# Altium integrated library Lattice CPLD ispMACH.IntLib: 663 symbols (part 14 of 48)
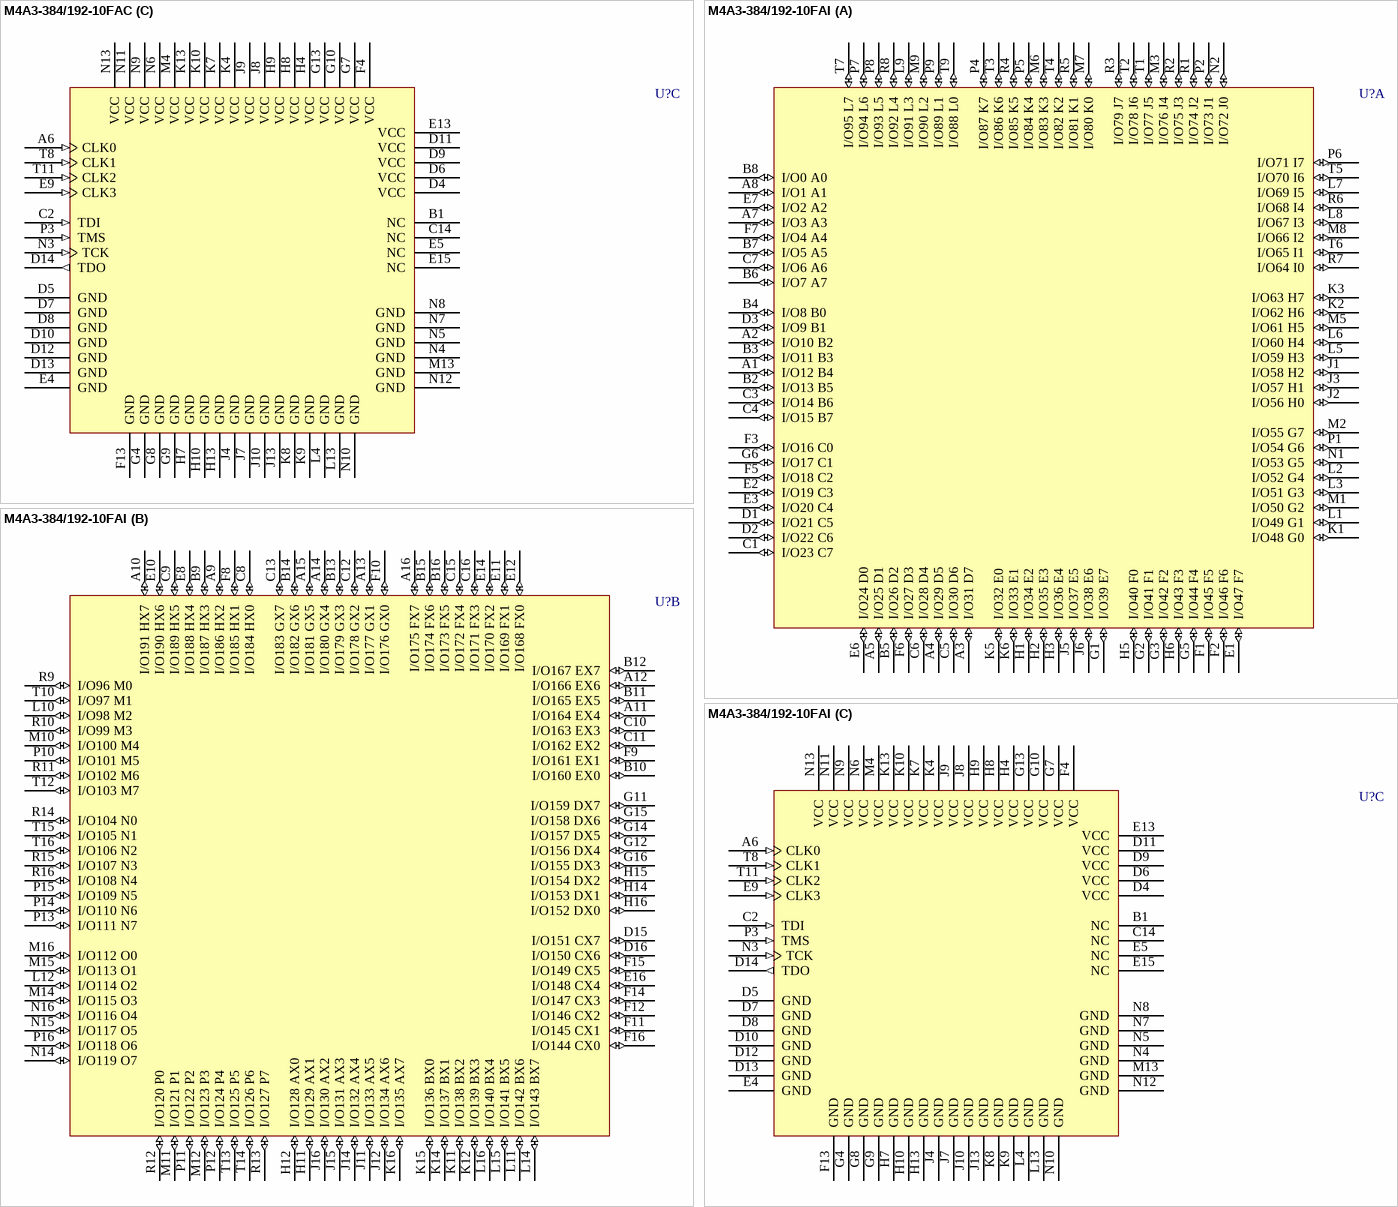
[diagram p319: symbols M4A3-384/192-10FAC to M4A3-384/192-10FAI]

## M4A3-384/192-10FAC
designator U?
High-Performance EE CMOS In-System Programmable Logic; Published: 17-Jul-2002; LatestRevisionDate: 13-Apr-2006; LatestRevisionNote: IPC-7351 Footprint Added.; DatasheetVersion: Feb-2001; PackageVersion: pkg_32, Aug-2005; PackageReference: fpBGA256; Publisher: Altium Limited; PackageDescription: 256-Ball Fine Pitch Ball Grid Array (fpBGA256); Code_IPC: BGA100P16X16-256; ComponentLink1Description: Manufacturer Link; ComponentLink1URL: http://www.latticesemi.com/products/mature/index.cfm; ComponentLink2Description: Datasheet; ComponentLink2URL: http://www.latticesemi.com/account/_download.cfm?AMID=1344
footprint fpBGA256 (BGA, 256-Leads, Body 17x17mm, Pitch 1mm)
3D model M4A3-fpBGA256 (256-Ball Fine Pitch Ball Grid Array (fpBGA256))
part A pins: A1 I/O12 B4 (io), A2 I/O10 B2 (io), A3 I/O31 D7 (io), A4 I/O29 D5 (io), A5 I/O25 D1 (io), A7 I/O3 A3 (io), A8 I/O1 A1 (io), B2 I/O13 B5 (io), B3 I/O11 B3 (io), B4 I/O8 B0 (io), B5 I/O26 D2 (io), B6 I/O7 A7 (io), B7 I/O5 A5 (io), B8 I/O0 A0 (io), C1 I/O23 C7 (io), C3 I/O14 B6 (io), C4 I/O15 B7 (io), C5 I/O30 D6 (io), C6 I/O28 D4 (io), C7 I/O6 A6 (io), D1 I/O21 C5 (io), D2 I/O22 C6 (io), D3 I/O9 B1 (io), E1 I/O47 F7 (io), E2 I/O19 C3 (io), E3 I/O20 C4 (io), E6 I/O24 D0 (io), E7 I/O2 A2 (io), F1 I/O45 F5 (io), F2 I/O46 F6 (io), F3 I/O16 C0 (io), F5 I/O18 C2 (io), F6 I/O27 D3 (io), F7 I/O4 A4 (io), G1 I/O39 E7 (io), G2 I/O41 F1 (io), G3 I/O42 F2 (io), G5 I/O44 F4 (io), G6 I/O17 C1 (io), H1 I/O34 E2 (io), H2 I/O35 E3 (io), H3 I/O36 E4 (io), H5 I/O40 F0 (io), H6 I/O43 F3 (io), J1 I/O58 H2 (io), J2 I/O56 H0 (io), J3 I/O57 H1 (io), J5 I/O37 E5 (io), J6 I/O38 E6 (io), K1 I/O48 G0 (io), K2 I/O62 H6 (io), K3 I/O63 H7 (io), K5 I/O32 E0 (io), K6 I/O33 E1 (io), L1 I/O49 G1 (io), L2 I/O52 G4 (io), L3 I/O51 G3 (io), L5 I/O59 H3 (io), L6 I/O60 H4 (io), L7 I/O69 I5 (io), L8 I/O67 I3 (io), L9 I/O91 L3 (io), M1 I/O50 G2 (io), M2 I/O55 G7 (io), M3 I/O76 J4 (io), M5 I/O61 H5 (io), M6 I/O83 K3 (io), M7 I/O80 K0 (io), M8 I/O66 I2 (io), M9 I/O90 L2 (io), N1 I/O53 G5 (io), N2 I/O72 J0 (io), P1 I/O54 G6 (io), P2 I/O73 J1 (io), P4 I/O87 K7 (io), P5 I/O84 K4 (io), P6 I/O71 I7 (io), P7 I/O94 L6 (io), P8 I/O93 L5 (io), P9 I/O89 L1 (io), R1 I/O74 J2 (io), R2 I/O75 J3 (io), R3 I/O79 J7 (io), R4 I/O85 K5 (io), R5 I/O81 K1 (io), R6 I/O68 I4 (io), R7 I/O64 I0 (io), R8 I/O92 L4 (io), T1 I/O77 J5 (io), T2 I/O78 J6 (io), T3 I/O86 K6 (io), T4 I/O82 K2 (io), T5 I/O70 I6 (io), T6 I/O65 I1 (io), T7 I/O95 L7 (io), T9 I/O88 L0 (io)
part B pins: A9 I/O186 HX2 (io), A10 I/O191 HX7 (io), A11 I/O164 EX4 (io), A12 I/O166 EX6 (io), A13 I/O177 GX1 (io), A14 I/O180 GX4 (io), A15 I/O181 GX5 (io), A16 I/O175 FX7 (io), B9 I/O187 HX3 (io), B10 I/O160 EX0 (io), B11 I/O165 EX5 (io), B12 I/O167 EX7 (io), B13 I/O179 GX3 (io), B14 I/O182 GX6 (io), B15 I/O174 FX6 (io), B16 I/O173 FX5 (io), C8 I/O184 HX0 (io), C9 I/O189 HX5 (io), C10 I/O163 EX3 (io), C11 I/O162 EX2 (io), C12 I/O178 GX2 (io), C13 I/O183 GX7 (io), C15 I/O172 FX4 (io), C16 I/O171 FX3 (io), D15 I/O151 CX7 (io), D16 I/O150 CX6 (io), E8 I/O188 HX4 (io), E10 I/O190 HX6 (io), E11 I/O169 FX1 (io), E12 I/O168 FX0 (io), E14 I/O170 FX2 (io), E16 I/O148 CX4 (io), F8 I/O185 HX1 (io), F9 I/O161 EX1 (io), F10 I/O176 GX0 (io), F11 I/O145 CX1 (io), F12 I/O146 CX2 (io), F14 I/O147 CX3 (io), F15 I/O149 CX5 (io), F16 I/O144 CX0 (io), G11 I/O159 DX7 (io), G12 I/O156 DX4 (io), G14 I/O157 DX5 (io), G15 I/O158 DX6 (io), G16 I/O155 DX3 (io), H11 I/O129 AX1 (io), H12 I/O128 AX0 (io), H14 I/O153 DX1 (io), H15 I/O154 DX2 (io), H16 I/O152 DX0 (io), J11 I/O133 AX5 (io), J12 I/O134 AX6 (io), J14 I/O132 AX4 (io), J15 I/O131 AX3 (io), J16 I/O130 AX2 (io), K11 I/O138 BX2 (io), K12 I/O139 BX3 (io), K14 I/O137 BX1 (io), K15 I/O136 BX0 (io), K16 I/O135 AX7 (io), L10 I/O98 M2 (io), L11 I/O142 BX6 (io), L12 I/O114 O2 (io), L14 I/O143 BX7 (io), L15 I/O141 BX5 (io), L16 I/O140 BX4 (io), M10 I/O100 M4 (io), M11 I/O121 P1 (io), M12 I/O123 P3 (io), M14 I/O115 O3 (io), M15 I/O113 O1 (io), M16 I/O112 O0 (io), N14 I/O119 O7 (io), N15 I/O117 O5 (io), N16 I/O116 O4 (io), P10 I/O101 M5 (io), P11 I/O122 P2 (io), P12 I/O124 P4 (io), P13 I/O111 N7 (io), P14 I/O110 N6 (io), P15 I/O109 N5 (io), P16 I/O118 O6 (io), R9 I/O96 M0 (io), R10 I/O99 M3 (io), R11 I/O102 M6 (io), R12 I/O120 P0 (io), R13 I/O127 P7 (io), R14 I/O104 N0 (io), R15 I/O107 N3 (io), R16 I/O108 N4 (io), T10 I/O97 M1 (io), T12 I/O103 M7 (io), T13 I/O125 P5 (io), T14 I/O126 P6 (io), T15 I/O105 N1 (io), T16 I/O106 N2 (io)
part C pins: A6 CLK0 (in), B1 NC, C2 TDI (in), C14 NC, D4 VCC (power), D5 GND (power), D6 VCC (power), D7 GND (power), D8 GND (power), D9 VCC (power), D10 GND (power), D11 VCC (power), D12 GND (power), D13 GND (power), D14 TDO (out), E4 GND (power), E5 NC, E9 CLK3 (in), E13 VCC (power), E15 NC, F4 VCC (power), F13 GND (power), G4 GND (power), G7 VCC (power), G8 GND (power), G9 GND (power), G10 VCC (power), G13 VCC (power), H4 VCC (power), H7 GND (power), H8 VCC (power), H9 VCC (power), H10 GND (power), H13 GND (power), J4 GND (power), J7 GND (power), J8 VCC (power), J9 VCC (power), J10 GND (power), J13 GND (power), K4 VCC (power), K7 VCC (power), K8 GND (power), K9 GND (power), K10 VCC (power), K13 VCC (power), L4 GND (power), L13 GND (power), M4 VCC (power), M13 GND (power), N3 TCK (in), N4 GND (power), N5 GND (power), N6 VCC (power), N7 GND (power), N8 GND (power), N9 VCC (power), N10 GND (power), N11 VCC (power), N12 GND (power), N13 VCC (power), P3 TMS (in), T8 CLK1 (in), T11 CLK2 (in)

## M4A3-384/192-10FAI
designator U?
High-Performance EE CMOS In-System Programmable Logic; Published: 17-Jul-2002; LatestRevisionDate: 13-Apr-2006; LatestRevisionNote: IPC-7351 Footprint Added.; DatasheetVersion: Feb-2001; PackageVersion: pkg_32, Aug-2005; PackageReference: fpBGA256; Publisher: Altium Limited; PackageDescription: 256-Ball Fine Pitch Ball Grid Array (fpBGA256); Code_IPC: BGA100P16X16-256; ComponentLink1Description: Manufacturer Link; ComponentLink1URL: http://www.latticesemi.com/products/mature/index.cfm; ComponentLink2Description: Datasheet; ComponentLink2URL: http://www.latticesemi.com/account/_download.cfm?AMID=1344
footprint fpBGA256 (BGA, 256-Leads, Body 17x17mm, Pitch 1mm)
3D model M4A3-fpBGA256 (256-Ball Fine Pitch Ball Grid Array (fpBGA256))
part A pins: A1 I/O12 B4 (io), A2 I/O10 B2 (io), A3 I/O31 D7 (io), A4 I/O29 D5 (io), A5 I/O25 D1 (io), A7 I/O3 A3 (io), A8 I/O1 A1 (io), B2 I/O13 B5 (io), B3 I/O11 B3 (io), B4 I/O8 B0 (io), B5 I/O26 D2 (io), B6 I/O7 A7 (io), B7 I/O5 A5 (io), B8 I/O0 A0 (io), C1 I/O23 C7 (io), C3 I/O14 B6 (io), C4 I/O15 B7 (io), C5 I/O30 D6 (io), C6 I/O28 D4 (io), C7 I/O6 A6 (io), D1 I/O21 C5 (io), D2 I/O22 C6 (io), D3 I/O9 B1 (io), E1 I/O47 F7 (io), E2 I/O19 C3 (io), E3 I/O20 C4 (io), E6 I/O24 D0 (io), E7 I/O2 A2 (io), F1 I/O45 F5 (io), F2 I/O46 F6 (io), F3 I/O16 C0 (io), F5 I/O18 C2 (io), F6 I/O27 D3 (io), F7 I/O4 A4 (io), G1 I/O39 E7 (io), G2 I/O41 F1 (io), G3 I/O42 F2 (io), G5 I/O44 F4 (io), G6 I/O17 C1 (io), H1 I/O34 E2 (io), H2 I/O35 E3 (io), H3 I/O36 E4 (io), H5 I/O40 F0 (io), H6 I/O43 F3 (io), J1 I/O58 H2 (io), J2 I/O56 H0 (io), J3 I/O57 H1 (io), J5 I/O37 E5 (io), J6 I/O38 E6 (io), K1 I/O48 G0 (io), K2 I/O62 H6 (io), K3 I/O63 H7 (io), K5 I/O32 E0 (io), K6 I/O33 E1 (io), L1 I/O49 G1 (io), L2 I/O52 G4 (io), L3 I/O51 G3 (io), L5 I/O59 H3 (io), L6 I/O60 H4 (io), L7 I/O69 I5 (io), L8 I/O67 I3 (io), L9 I/O91 L3 (io), M1 I/O50 G2 (io), M2 I/O55 G7 (io), M3 I/O76 J4 (io), M5 I/O61 H5 (io), M6 I/O83 K3 (io), M7 I/O80 K0 (io), M8 I/O66 I2 (io), M9 I/O90 L2 (io), N1 I/O53 G5 (io), N2 I/O72 J0 (io), P1 I/O54 G6 (io), P2 I/O73 J1 (io), P4 I/O87 K7 (io), P5 I/O84 K4 (io), P6 I/O71 I7 (io), P7 I/O94 L6 (io), P8 I/O93 L5 (io), P9 I/O89 L1 (io), R1 I/O74 J2 (io), R2 I/O75 J3 (io), R3 I/O79 J7 (io), R4 I/O85 K5 (io), R5 I/O81 K1 (io), R6 I/O68 I4 (io), R7 I/O64 I0 (io), R8 I/O92 L4 (io), T1 I/O77 J5 (io), T2 I/O78 J6 (io), T3 I/O86 K6 (io), T4 I/O82 K2 (io), T5 I/O70 I6 (io), T6 I/O65 I1 (io), T7 I/O95 L7 (io), T9 I/O88 L0 (io)
part B pins: A9 I/O186 HX2 (io), A10 I/O191 HX7 (io), A11 I/O164 EX4 (io), A12 I/O166 EX6 (io), A13 I/O177 GX1 (io), A14 I/O180 GX4 (io), A15 I/O181 GX5 (io), A16 I/O175 FX7 (io), B9 I/O187 HX3 (io), B10 I/O160 EX0 (io), B11 I/O165 EX5 (io), B12 I/O167 EX7 (io), B13 I/O179 GX3 (io), B14 I/O182 GX6 (io), B15 I/O174 FX6 (io), B16 I/O173 FX5 (io), C8 I/O184 HX0 (io), C9 I/O189 HX5 (io), C10 I/O163 EX3 (io), C11 I/O162 EX2 (io), C12 I/O178 GX2 (io), C13 I/O183 GX7 (io), C15 I/O172 FX4 (io), C16 I/O171 FX3 (io), D15 I/O151 CX7 (io), D16 I/O150 CX6 (io), E8 I/O188 HX4 (io), E10 I/O190 HX6 (io), E11 I/O169 FX1 (io), E12 I/O168 FX0 (io), E14 I/O170 FX2 (io), E16 I/O148 CX4 (io), F8 I/O185 HX1 (io), F9 I/O161 EX1 (io), F10 I/O176 GX0 (io), F11 I/O145 CX1 (io), F12 I/O146 CX2 (io), F14 I/O147 CX3 (io), F15 I/O149 CX5 (io), F16 I/O144 CX0 (io), G11 I/O159 DX7 (io), G12 I/O156 DX4 (io), G14 I/O157 DX5 (io), G15 I/O158 DX6 (io), G16 I/O155 DX3 (io), H11 I/O129 AX1 (io), H12 I/O128 AX0 (io), H14 I/O153 DX1 (io), H15 I/O154 DX2 (io), H16 I/O152 DX0 (io), J11 I/O133 AX5 (io), J12 I/O134 AX6 (io), J14 I/O132 AX4 (io), J15 I/O131 AX3 (io), J16 I/O130 AX2 (io), K11 I/O138 BX2 (io), K12 I/O139 BX3 (io), K14 I/O137 BX1 (io), K15 I/O136 BX0 (io), K16 I/O135 AX7 (io), L10 I/O98 M2 (io), L11 I/O142 BX6 (io), L12 I/O114 O2 (io), L14 I/O143 BX7 (io), L15 I/O141 BX5 (io), L16 I/O140 BX4 (io), M10 I/O100 M4 (io), M11 I/O121 P1 (io), M12 I/O123 P3 (io), M14 I/O115 O3 (io), M15 I/O113 O1 (io), M16 I/O112 O0 (io), N14 I/O119 O7 (io), N15 I/O117 O5 (io), N16 I/O116 O4 (io), P10 I/O101 M5 (io), P11 I/O122 P2 (io), P12 I/O124 P4 (io), P13 I/O111 N7 (io), P14 I/O110 N6 (io), P15 I/O109 N5 (io), P16 I/O118 O6 (io), R9 I/O96 M0 (io), R10 I/O99 M3 (io), R11 I/O102 M6 (io), R12 I/O120 P0 (io), R13 I/O127 P7 (io), R14 I/O104 N0 (io), R15 I/O107 N3 (io), R16 I/O108 N4 (io), T10 I/O97 M1 (io), T12 I/O103 M7 (io), T13 I/O125 P5 (io), T14 I/O126 P6 (io), T15 I/O105 N1 (io), T16 I/O106 N2 (io)
part C pins: A6 CLK0 (in), B1 NC, C2 TDI (in), C14 NC, D4 VCC (power), D5 GND (power), D6 VCC (power), D7 GND (power), D8 GND (power), D9 VCC (power), D10 GND (power), D11 VCC (power), D12 GND (power), D13 GND (power), D14 TDO (out), E4 GND (power), E5 NC, E9 CLK3 (in), E13 VCC (power), E15 NC, F4 VCC (power), F13 GND (power), G4 GND (power), G7 VCC (power), G8 GND (power), G9 GND (power), G10 VCC (power), G13 VCC (power), H4 VCC (power), H7 GND (power), H8 VCC (power), H9 VCC (power), H10 GND (power), H13 GND (power), J4 GND (power), J7 GND (power), J8 VCC (power), J9 VCC (power), J10 GND (power), J13 GND (power), K4 VCC (power), K7 VCC (power), K8 GND (power), K9 GND (power), K10 VCC (power), K13 VCC (power), L4 GND (power), L13 GND (power), M4 VCC (power), M13 GND (power), N3 TCK (in), N4 GND (power), N5 GND (power), N6 VCC (power), N7 GND (power), N8 GND (power), N9 VCC (power), N10 GND (power), N11 VCC (power), N12 GND (power), N13 VCC (power), P3 TMS (in), T8 CLK1 (in), T11 CLK2 (in)

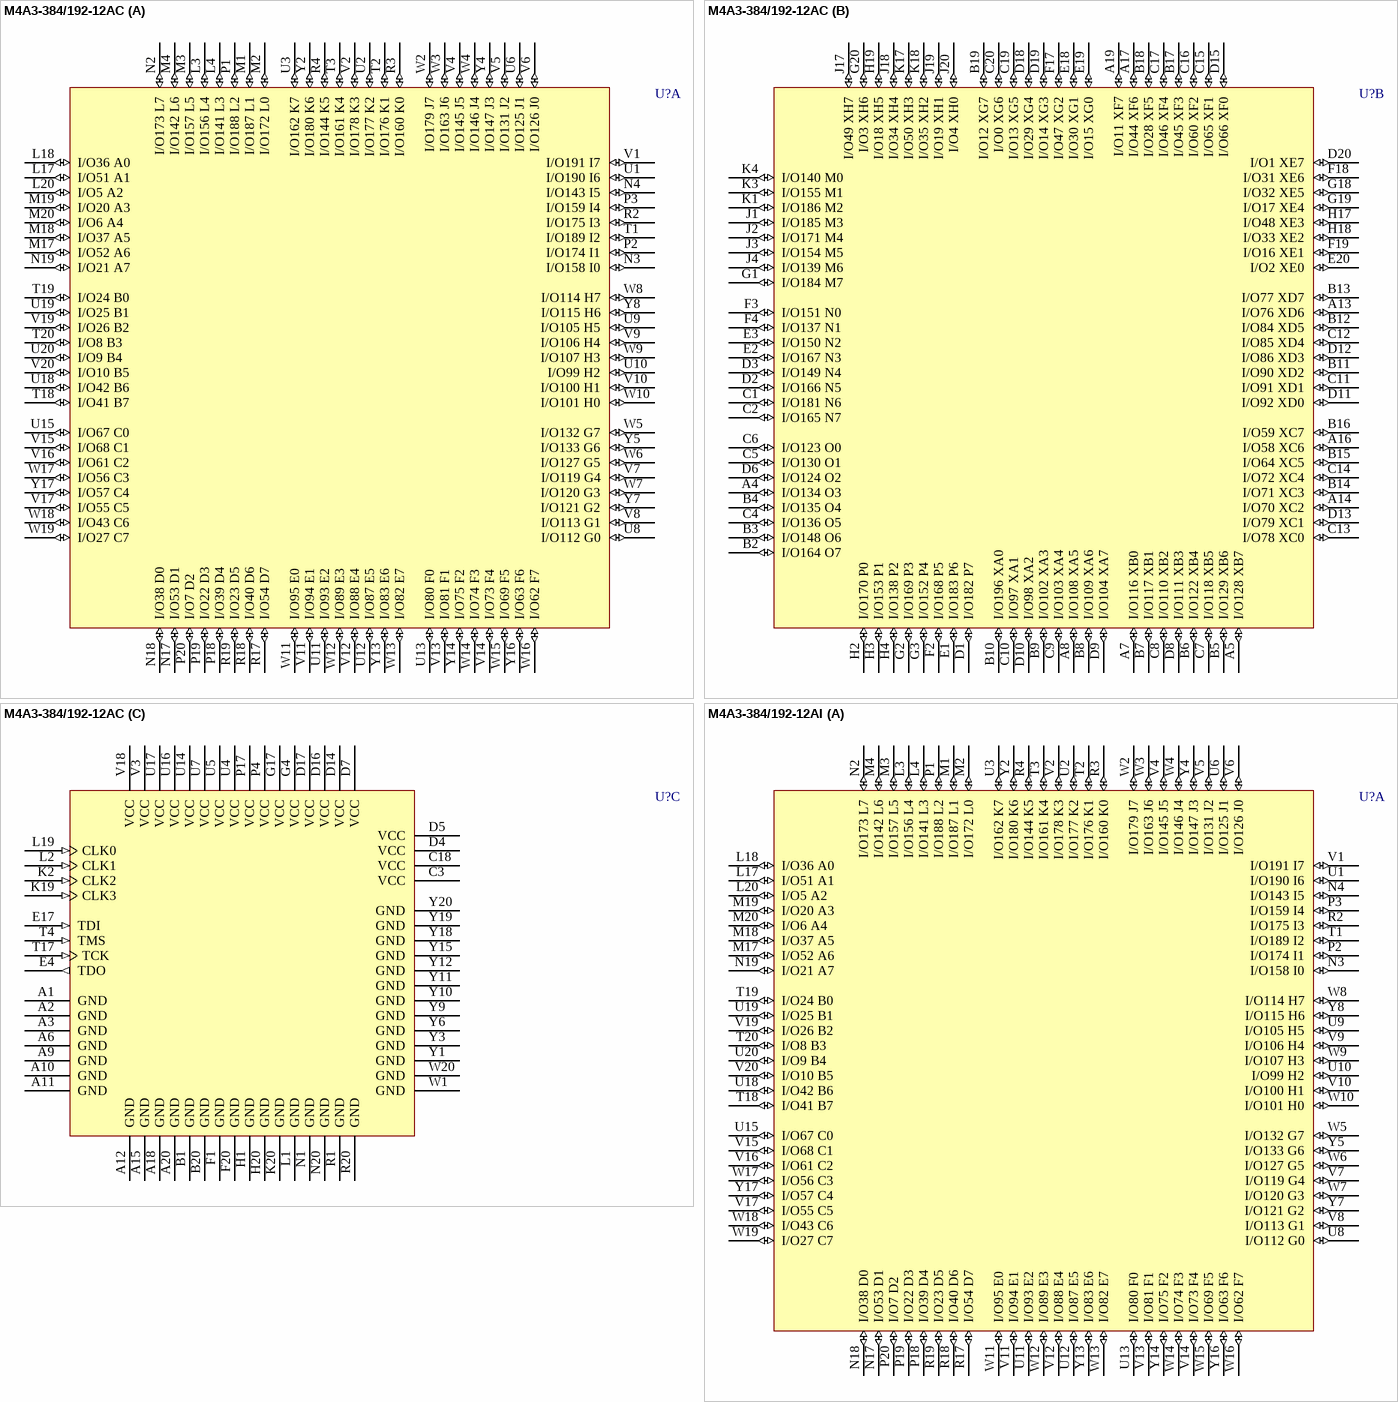
[diagram p82: symbols M4A3-384/192-12AC to M4A3-384/192-12AI]

## M4A3-384/192-12AC
designator U?
High-Performance EE CMOS In-System Programmable Logic; Published: 17-Jul-2002; LatestRevisionDate: 13-Apr-2006; LatestRevisionNote: IPC-7351 Footprint Added.; DatasheetVersion: Feb-2001; PackageVersion: pkg_32, Aug-2005; PackageReference: SBGA256; Publisher: Altium Limited; PackageDescription: 256-Ball Super Ball Grid Array (SBGA256); ComponentLink1Description: Manufacturer Link; ComponentLink1URL: http://www.latticesemi.com/products/mature/index.cfm; ComponentLink2Description: Datasheet; ComponentLink2URL: http://www.latticesemi.com/account/_download.cfm?AMID=1344
footprint SBGA256 (BGA, 256-Leads, Body 27x27mm, Pitch 1.27mm)
3D model M4A3-SBGA256 (256-Ball Super Ball Grid Array (SBGA256))
part A pins: L3 I/O156 L4 (io), L4 I/O141 L3 (io), L17 I/O51 A1 (io), L18 I/O36 A0 (io), L20 I/O5 A2 (io), M1 I/O187 L1 (io), M2 I/O172 L0 (io), M3 I/O157 L5 (io), M4 I/O142 L6 (io), M17 I/O52 A6 (io), M18 I/O37 A5 (io), M19 I/O20 A3 (io), M20 I/O6 A4 (io), N2 I/O173 L7 (io), N3 I/O158 I0 (io), N4 I/O143 I5 (io), N17 I/O53 D1 (io), N18 I/O38 D0 (io), N19 I/O21 A7 (io), P1 I/O188 L2 (io), P2 I/O174 I1 (io), P3 I/O159 I4 (io), P18 I/O39 D4 (io), P19 I/O22 D3 (io), P20 I/O7 D2 (io), R2 I/O175 I3 (io), R3 I/O160 K0 (io), R4 I/O144 K5 (io), R17 I/O54 D7 (io), R18 I/O40 D6 (io), R19 I/O23 D5 (io), T1 I/O189 I2 (io), T2 I/O176 K1 (io), T3 I/O161 K4 (io), T18 I/O41 B7 (io), T19 I/O24 B0 (io), T20 I/O8 B3 (io), U1 I/O190 I6 (io), U2 I/O177 K2 (io), U3 I/O162 K7 (io), U6 I/O125 J1 (io), U8 I/O112 G0 (io), U9 I/O105 H5 (io), U10 I/O99 H2 (io), U11 I/O93 E2 (io), U12 I/O87 E5 (io), U13 I/O80 F0 (io), U15 I/O67 C0 (io), U18 I/O42 B6 (io), U19 I/O25 B1 (io), U20 I/O9 B4 (io), V1 I/O191 I7 (io), V2 I/O178 K3 (io), V4 I/O145 J5 (io), V5 I/O131 J2 (io), V6 I/O126 J0 (io), V7 I/O119 G4 (io), V8 I/O113 G1 (io), V9 I/O106 H4 (io), V10 I/O100 H1 (io), V11 I/O94 E1 (io), V12 I/O88 E4 (io), V13 I/O81 F1 (io), V14 I/O73 F4 (io), V15 I/O68 C1 (io), V16 I/O61 C2 (io), V17 I/O55 C5 (io), V19 I/O26 B2 (io), V20 I/O10 B5 (io), W2 I/O179 J7 (io), W3 I/O163 J6 (io), W4 I/O146 J4 (io), W5 I/O132 G7 (io), W6 I/O127 G5 (io), W7 I/O120 G3 (io), W8 I/O114 H7 (io), W9 I/O107 H3 (io), W10 I/O101 H0 (io), W11 I/O95 E0 (io), W12 I/O89 E3 (io), W13 I/O82 E7 (io), W14 I/O74 F3 (io), W15 I/O69 F5 (io), W16 I/O62 F7 (io), W17 I/O56 C3 (io), W18 I/O43 C6 (io), W19 I/O27 C7 (io), Y2 I/O180 K6 (io), Y4 I/O147 J3 (io), Y5 I/O133 G6 (io), Y7 I/O121 G2 (io), Y8 I/O115 H6 (io), Y13 I/O83 E6 (io), Y14 I/O75 F2 (io), Y16 I/O63 F6 (io), Y17 I/O57 C4 (io)
part B pins: A4 I/O134 O3 (io), A5 I/O128 XB7 (io), A7 I/O116 XB0 (io), A8 I/O108 XA5 (io), A13 I/O76 XD6 (io), A14 I/O70 XC2 (io), A16 I/O58 XC6 (io), A17 I/O44 XF6 (io), A19 I/O11 XF7 (io), B2 I/O164 O7 (io), B3 I/O148 O6 (io), B4 I/O135 O4 (io), B5 I/O129 XB6 (io), B6 I/O122 XB4 (io), B7 I/O117 XB1 (io), B8 I/O109 XA6 (io), B9 I/O102 XA3 (io), B10 I/O196 XA0 (io), B11 I/O90 XD2 (io), B12 I/O84 XD5 (io), B13 I/O77 XD7 (io), B14 I/O71 XC3 (io), B15 I/O64 XC5 (io), B16 I/O59 XC7 (io), B17 I/O45 XF3 (io), B18 I/O28 XF5 (io), B19 I/O12 XG7 (io), C1 I/O181 N6 (io), C2 I/O165 N7 (io), C4 I/O136 O5 (io), C5 I/O130 O1 (io), C6 I/O123 O0 (io), C7 I/O118 XB5 (io), C8 I/O110 XB2 (io), C9 I/O103 XA4 (io), C10 I/O97 XA1 (io), C11 I/O91 XD1 (io), C12 I/O85 XD4 (io), C13 I/O78 XC0 (io), C14 I/O72 XC4 (io), C15 I/O65 XF1 (io), C16 I/O60 XF2 (io), C17 I/O46 XF4 (io), C19 I/O13 XG5 (io), C20 I/O0 XG6 (io), D1 I/O182 P7 (io), D2 I/O166 N5 (io), D3 I/O149 N4 (io), D6 I/O124 O2 (io), D8 I/O111 XB3 (io), D9 I/O104 XA7 (io), D10 I/O98 XA2 (io), D11 I/O92 XD0 (io), D12 I/O86 XD3 (io), D13 I/O79 XC1 (io), D15 I/O66 XF0 (io), D18 I/O29 XG4 (io), D19 I/O14 XG3 (io), D20 I/O1 XE7 (io), E1 I/O183 P6 (io), E2 I/O167 N3 (io), E3 I/O150 N2 (io), E18 I/O30 XG1 (io), E19 I/O15 XG0 (io), E20 I/O2 XE0 (io), F2 I/O168 P5 (io), F3 I/O151 N0 (io), F4 I/O137 N1 (io), F17 I/O47 XG2 (io), F18 I/O31 XE6 (io), F19 I/O16 XE1 (io), G1 I/O184 M7 (io), G2 I/O169 P3 (io), G3 I/O152 P4 (io), G18 I/O32 XE5 (io), G19 I/O17 XE4 (io), G20 I/O3 XH6 (io), H2 I/O170 P0 (io), H3 I/O153 P1 (io), H4 I/O138 P2 (io), H17 I/O48 XE3 (io), H18 I/O33 XE2 (io), H19 I/O18 XH5 (io), J1 I/O185 M3 (io), J2 I/O171 M4 (io), J3 I/O154 M5 (io), J4 I/O139 M6 (io), J17 I/O49 XH7 (io), J18 I/O34 XH4 (io), J19 I/O19 XH1 (io), J20 I/O4 XH0 (io), K1 I/O186 M2 (io), K3 I/O155 M1 (io), K4 I/O140 M0 (io), K17 I/O50 XH3 (io), K18 I/O35 XH2 (io)
part C pins: A1 GND (power), A2 GND (power), A3 GND (power), A6 GND (power), A9 GND (power), A10 GND (power), A11 GND (power), A12 GND (power), A15 GND (power), A18 GND (power), A20 GND (power), B1 GND (power), B20 GND (power), C3 VCC (power), C18 VCC (power), D4 VCC (power), D5 VCC (power), D7 VCC (power), D14 VCC (power), D16 VCC (power), D17 VCC (power), E4 TDO (out), E17 TDI (in), F1 GND (power), F20 GND (power), G4 VCC (power), G17 VCC (power), H1 GND (power), H20 GND (power), K2 CLK2 (in), K19 CLK3 (in), K20 GND (power), L1 GND (power), L2 CLK1 (in), L19 CLK0 (in), N1 GND (power), N20 GND (power), P4 VCC (power), P17 VCC (power), R1 GND (power), R20 GND (power), T4 TMS (in), T17 TCK (in), U4 VCC (power), U5 VCC (power), U7 VCC (power), U14 VCC (power), U16 VCC (power), U17 VCC (power), V3 VCC (power), V18 VCC (power), W1 GND (power), W20 GND (power), Y1 GND (power), Y3 GND (power), Y6 GND (power), Y9 GND (power), Y10 GND (power), Y11 GND (power), Y12 GND (power), Y15 GND (power), Y18 GND (power), Y19 GND (power), Y20 GND (power)

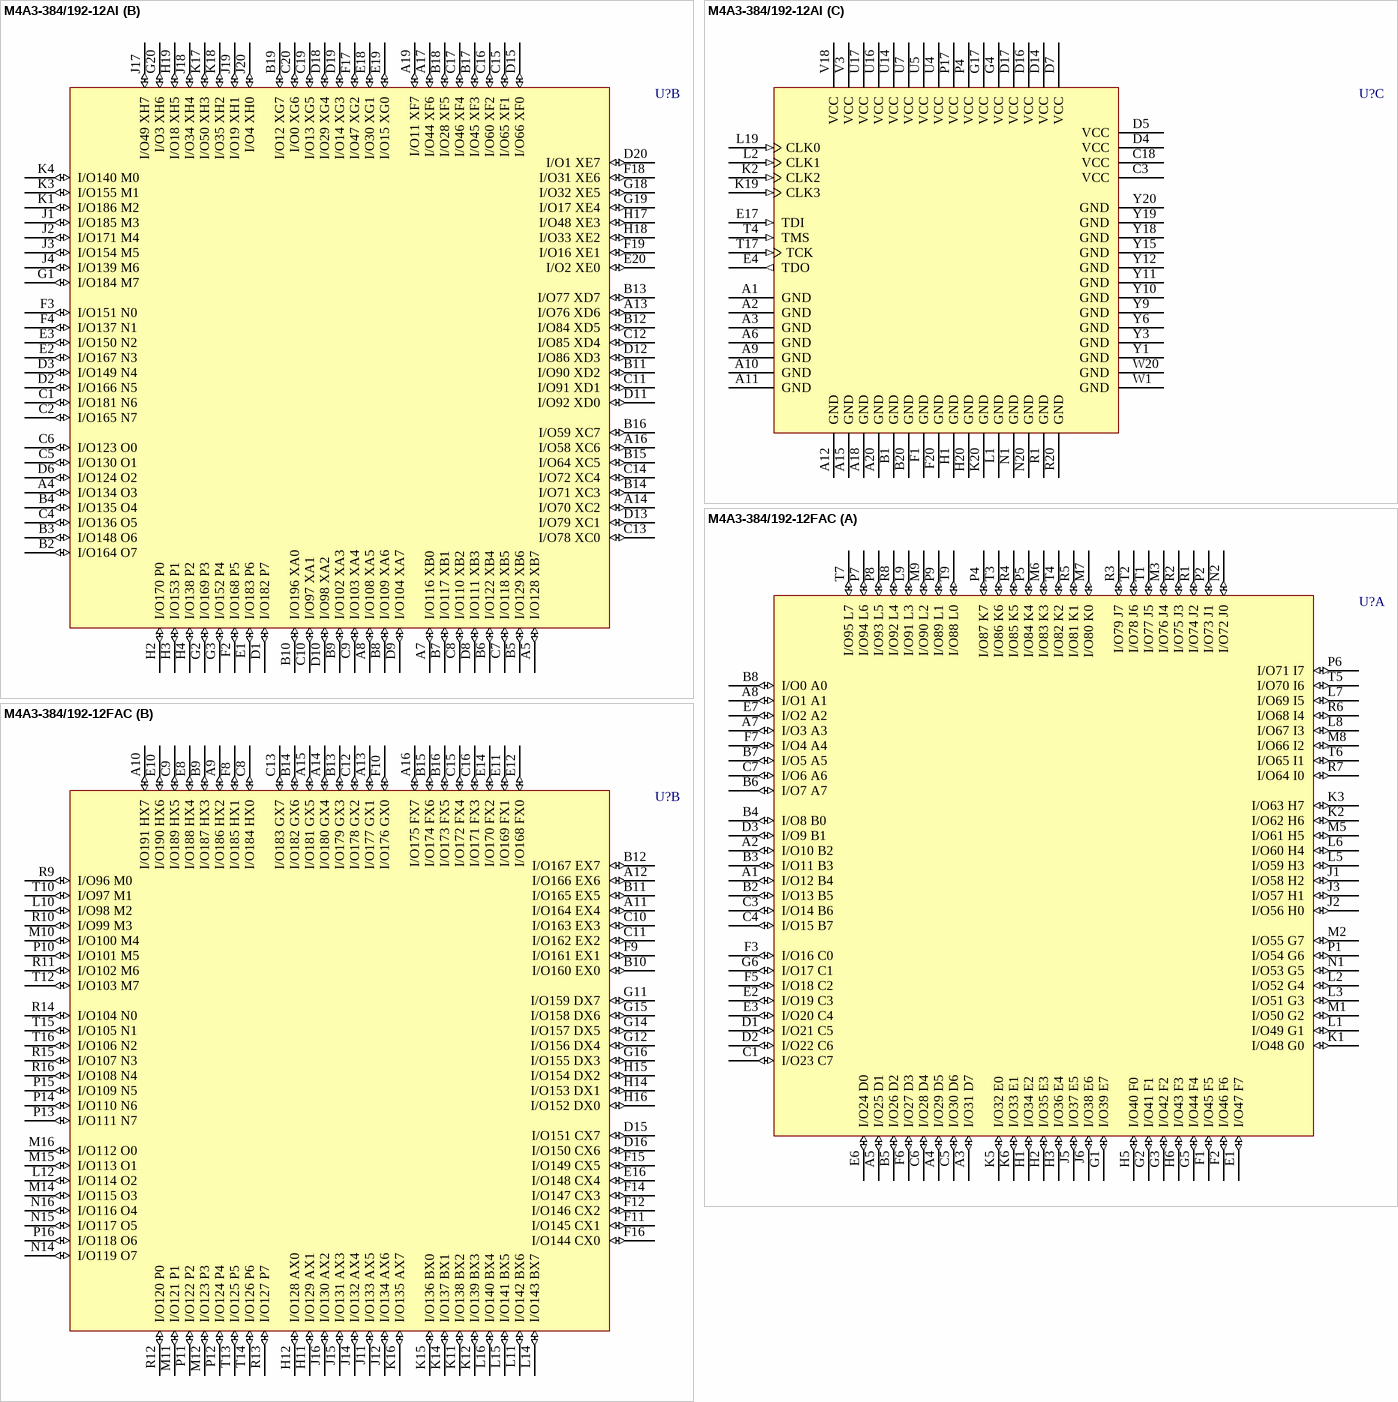
[diagram p83: symbols M4A3-384/192-12AI to M4A3-384/192-12FAC]

## M4A3-384/192-12AI
designator U?
High-Performance EE CMOS In-System Programmable Logic; Published: 17-Jul-2002; LatestRevisionDate: 13-Apr-2006; LatestRevisionNote: IPC-7351 Footprint Added.; DatasheetVersion: Feb-2001; PackageVersion: pkg_32, Aug-2005; PackageReference: SBGA256; Publisher: Altium Limited; PackageDescription: 256-Ball Super Ball Grid Array (SBGA256); ComponentLink1Description: Manufacturer Link; ComponentLink1URL: http://www.latticesemi.com/products/mature/index.cfm; ComponentLink2Description: Datasheet; ComponentLink2URL: http://www.latticesemi.com/account/_download.cfm?AMID=1344
footprint SBGA256 (BGA, 256-Leads, Body 27x27mm, Pitch 1.27mm)
3D model M4A3-SBGA256 (256-Ball Super Ball Grid Array (SBGA256))
part A pins: L3 I/O156 L4 (io), L4 I/O141 L3 (io), L17 I/O51 A1 (io), L18 I/O36 A0 (io), L20 I/O5 A2 (io), M1 I/O187 L1 (io), M2 I/O172 L0 (io), M3 I/O157 L5 (io), M4 I/O142 L6 (io), M17 I/O52 A6 (io), M18 I/O37 A5 (io), M19 I/O20 A3 (io), M20 I/O6 A4 (io), N2 I/O173 L7 (io), N3 I/O158 I0 (io), N4 I/O143 I5 (io), N17 I/O53 D1 (io), N18 I/O38 D0 (io), N19 I/O21 A7 (io), P1 I/O188 L2 (io), P2 I/O174 I1 (io), P3 I/O159 I4 (io), P18 I/O39 D4 (io), P19 I/O22 D3 (io), P20 I/O7 D2 (io), R2 I/O175 I3 (io), R3 I/O160 K0 (io), R4 I/O144 K5 (io), R17 I/O54 D7 (io), R18 I/O40 D6 (io), R19 I/O23 D5 (io), T1 I/O189 I2 (io), T2 I/O176 K1 (io), T3 I/O161 K4 (io), T18 I/O41 B7 (io), T19 I/O24 B0 (io), T20 I/O8 B3 (io), U1 I/O190 I6 (io), U2 I/O177 K2 (io), U3 I/O162 K7 (io), U6 I/O125 J1 (io), U8 I/O112 G0 (io), U9 I/O105 H5 (io), U10 I/O99 H2 (io), U11 I/O93 E2 (io), U12 I/O87 E5 (io), U13 I/O80 F0 (io), U15 I/O67 C0 (io), U18 I/O42 B6 (io), U19 I/O25 B1 (io), U20 I/O9 B4 (io), V1 I/O191 I7 (io), V2 I/O178 K3 (io), V4 I/O145 J5 (io), V5 I/O131 J2 (io), V6 I/O126 J0 (io), V7 I/O119 G4 (io), V8 I/O113 G1 (io), V9 I/O106 H4 (io), V10 I/O100 H1 (io), V11 I/O94 E1 (io), V12 I/O88 E4 (io), V13 I/O81 F1 (io), V14 I/O73 F4 (io), V15 I/O68 C1 (io), V16 I/O61 C2 (io), V17 I/O55 C5 (io), V19 I/O26 B2 (io), V20 I/O10 B5 (io), W2 I/O179 J7 (io), W3 I/O163 J6 (io), W4 I/O146 J4 (io), W5 I/O132 G7 (io), W6 I/O127 G5 (io), W7 I/O120 G3 (io), W8 I/O114 H7 (io), W9 I/O107 H3 (io), W10 I/O101 H0 (io), W11 I/O95 E0 (io), W12 I/O89 E3 (io), W13 I/O82 E7 (io), W14 I/O74 F3 (io), W15 I/O69 F5 (io), W16 I/O62 F7 (io), W17 I/O56 C3 (io), W18 I/O43 C6 (io), W19 I/O27 C7 (io), Y2 I/O180 K6 (io), Y4 I/O147 J3 (io), Y5 I/O133 G6 (io), Y7 I/O121 G2 (io), Y8 I/O115 H6 (io), Y13 I/O83 E6 (io), Y14 I/O75 F2 (io), Y16 I/O63 F6 (io), Y17 I/O57 C4 (io)
part B pins: A4 I/O134 O3 (io), A5 I/O128 XB7 (io), A7 I/O116 XB0 (io), A8 I/O108 XA5 (io), A13 I/O76 XD6 (io), A14 I/O70 XC2 (io), A16 I/O58 XC6 (io), A17 I/O44 XF6 (io), A19 I/O11 XF7 (io), B2 I/O164 O7 (io), B3 I/O148 O6 (io), B4 I/O135 O4 (io), B5 I/O129 XB6 (io), B6 I/O122 XB4 (io), B7 I/O117 XB1 (io), B8 I/O109 XA6 (io), B9 I/O102 XA3 (io), B10 I/O196 XA0 (io), B11 I/O90 XD2 (io), B12 I/O84 XD5 (io), B13 I/O77 XD7 (io), B14 I/O71 XC3 (io), B15 I/O64 XC5 (io), B16 I/O59 XC7 (io), B17 I/O45 XF3 (io), B18 I/O28 XF5 (io), B19 I/O12 XG7 (io), C1 I/O181 N6 (io), C2 I/O165 N7 (io), C4 I/O136 O5 (io), C5 I/O130 O1 (io), C6 I/O123 O0 (io), C7 I/O118 XB5 (io), C8 I/O110 XB2 (io), C9 I/O103 XA4 (io), C10 I/O97 XA1 (io), C11 I/O91 XD1 (io), C12 I/O85 XD4 (io), C13 I/O78 XC0 (io), C14 I/O72 XC4 (io), C15 I/O65 XF1 (io), C16 I/O60 XF2 (io), C17 I/O46 XF4 (io), C19 I/O13 XG5 (io), C20 I/O0 XG6 (io), D1 I/O182 P7 (io), D2 I/O166 N5 (io), D3 I/O149 N4 (io), D6 I/O124 O2 (io), D8 I/O111 XB3 (io), D9 I/O104 XA7 (io), D10 I/O98 XA2 (io), D11 I/O92 XD0 (io), D12 I/O86 XD3 (io), D13 I/O79 XC1 (io), D15 I/O66 XF0 (io), D18 I/O29 XG4 (io), D19 I/O14 XG3 (io), D20 I/O1 XE7 (io), E1 I/O183 P6 (io), E2 I/O167 N3 (io), E3 I/O150 N2 (io), E18 I/O30 XG1 (io), E19 I/O15 XG0 (io), E20 I/O2 XE0 (io), F2 I/O168 P5 (io), F3 I/O151 N0 (io), F4 I/O137 N1 (io), F17 I/O47 XG2 (io), F18 I/O31 XE6 (io), F19 I/O16 XE1 (io), G1 I/O184 M7 (io), G2 I/O169 P3 (io), G3 I/O152 P4 (io), G18 I/O32 XE5 (io), G19 I/O17 XE4 (io), G20 I/O3 XH6 (io), H2 I/O170 P0 (io), H3 I/O153 P1 (io), H4 I/O138 P2 (io), H17 I/O48 XE3 (io), H18 I/O33 XE2 (io), H19 I/O18 XH5 (io), J1 I/O185 M3 (io), J2 I/O171 M4 (io), J3 I/O154 M5 (io), J4 I/O139 M6 (io), J17 I/O49 XH7 (io), J18 I/O34 XH4 (io), J19 I/O19 XH1 (io), J20 I/O4 XH0 (io), K1 I/O186 M2 (io), K3 I/O155 M1 (io), K4 I/O140 M0 (io), K17 I/O50 XH3 (io), K18 I/O35 XH2 (io)
part C pins: A1 GND (power), A2 GND (power), A3 GND (power), A6 GND (power), A9 GND (power), A10 GND (power), A11 GND (power), A12 GND (power), A15 GND (power), A18 GND (power), A20 GND (power), B1 GND (power), B20 GND (power), C3 VCC (power), C18 VCC (power), D4 VCC (power), D5 VCC (power), D7 VCC (power), D14 VCC (power), D16 VCC (power), D17 VCC (power), E4 TDO (out), E17 TDI (in), F1 GND (power), F20 GND (power), G4 VCC (power), G17 VCC (power), H1 GND (power), H20 GND (power), K2 CLK2 (in), K19 CLK3 (in), K20 GND (power), L1 GND (power), L2 CLK1 (in), L19 CLK0 (in), N1 GND (power), N20 GND (power), P4 VCC (power), P17 VCC (power), R1 GND (power), R20 GND (power), T4 TMS (in), T17 TCK (in), U4 VCC (power), U5 VCC (power), U7 VCC (power), U14 VCC (power), U16 VCC (power), U17 VCC (power), V3 VCC (power), V18 VCC (power), W1 GND (power), W20 GND (power), Y1 GND (power), Y3 GND (power), Y6 GND (power), Y9 GND (power), Y10 GND (power), Y11 GND (power), Y12 GND (power), Y15 GND (power), Y18 GND (power), Y19 GND (power), Y20 GND (power)

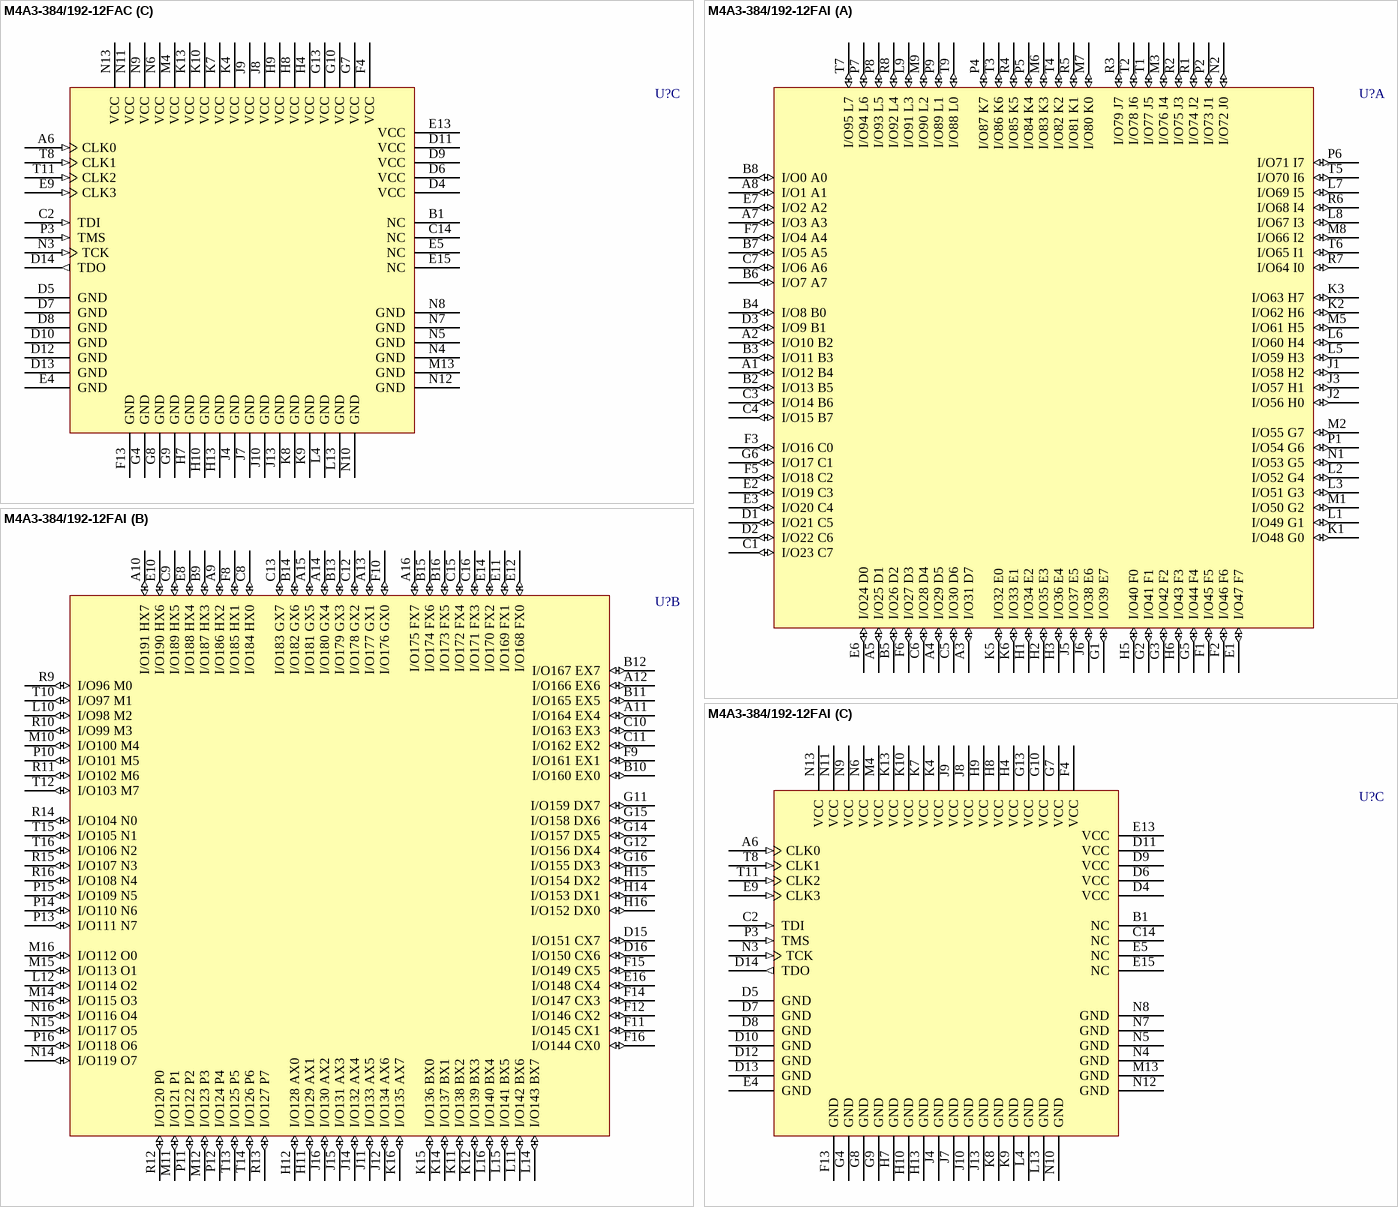
[diagram p84: symbols M4A3-384/192-12FAC to M4A3-384/192-12FAI]

## M4A3-384/192-12FAC
designator U?
High-Performance EE CMOS In-System Programmable Logic; Published: 17-Jul-2002; LatestRevisionDate: 13-Apr-2006; LatestRevisionNote: IPC-7351 Footprint Added.; DatasheetVersion: Feb-2001; PackageVersion: pkg_32, Aug-2005; PackageReference: fpBGA256; Publisher: Altium Limited; PackageDescription: 256-Ball Fine Pitch Ball Grid Array (fpBGA256); Code_IPC: BGA100P16X16-256; ComponentLink1Description: Manufacturer Link; ComponentLink1URL: http://www.latticesemi.com/products/mature/index.cfm; ComponentLink2Description: Datasheet; ComponentLink2URL: http://www.latticesemi.com/account/_download.cfm?AMID=1344
footprint fpBGA256 (BGA, 256-Leads, Body 17x17mm, Pitch 1mm)
3D model M4A3-fpBGA256 (256-Ball Fine Pitch Ball Grid Array (fpBGA256))
part A pins: A1 I/O12 B4 (io), A2 I/O10 B2 (io), A3 I/O31 D7 (io), A4 I/O29 D5 (io), A5 I/O25 D1 (io), A7 I/O3 A3 (io), A8 I/O1 A1 (io), B2 I/O13 B5 (io), B3 I/O11 B3 (io), B4 I/O8 B0 (io), B5 I/O26 D2 (io), B6 I/O7 A7 (io), B7 I/O5 A5 (io), B8 I/O0 A0 (io), C1 I/O23 C7 (io), C3 I/O14 B6 (io), C4 I/O15 B7 (io), C5 I/O30 D6 (io), C6 I/O28 D4 (io), C7 I/O6 A6 (io), D1 I/O21 C5 (io), D2 I/O22 C6 (io), D3 I/O9 B1 (io), E1 I/O47 F7 (io), E2 I/O19 C3 (io), E3 I/O20 C4 (io), E6 I/O24 D0 (io), E7 I/O2 A2 (io), F1 I/O45 F5 (io), F2 I/O46 F6 (io), F3 I/O16 C0 (io), F5 I/O18 C2 (io), F6 I/O27 D3 (io), F7 I/O4 A4 (io), G1 I/O39 E7 (io), G2 I/O41 F1 (io), G3 I/O42 F2 (io), G5 I/O44 F4 (io), G6 I/O17 C1 (io), H1 I/O34 E2 (io), H2 I/O35 E3 (io), H3 I/O36 E4 (io), H5 I/O40 F0 (io), H6 I/O43 F3 (io), J1 I/O58 H2 (io), J2 I/O56 H0 (io), J3 I/O57 H1 (io), J5 I/O37 E5 (io), J6 I/O38 E6 (io), K1 I/O48 G0 (io), K2 I/O62 H6 (io), K3 I/O63 H7 (io), K5 I/O32 E0 (io), K6 I/O33 E1 (io), L1 I/O49 G1 (io), L2 I/O52 G4 (io), L3 I/O51 G3 (io), L5 I/O59 H3 (io), L6 I/O60 H4 (io), L7 I/O69 I5 (io), L8 I/O67 I3 (io), L9 I/O91 L3 (io), M1 I/O50 G2 (io), M2 I/O55 G7 (io), M3 I/O76 J4 (io), M5 I/O61 H5 (io), M6 I/O83 K3 (io), M7 I/O80 K0 (io), M8 I/O66 I2 (io), M9 I/O90 L2 (io), N1 I/O53 G5 (io), N2 I/O72 J0 (io), P1 I/O54 G6 (io), P2 I/O73 J1 (io), P4 I/O87 K7 (io), P5 I/O84 K4 (io), P6 I/O71 I7 (io), P7 I/O94 L6 (io), P8 I/O93 L5 (io), P9 I/O89 L1 (io), R1 I/O74 J2 (io), R2 I/O75 J3 (io), R3 I/O79 J7 (io), R4 I/O85 K5 (io), R5 I/O81 K1 (io), R6 I/O68 I4 (io), R7 I/O64 I0 (io), R8 I/O92 L4 (io), T1 I/O77 J5 (io), T2 I/O78 J6 (io), T3 I/O86 K6 (io), T4 I/O82 K2 (io), T5 I/O70 I6 (io), T6 I/O65 I1 (io), T7 I/O95 L7 (io), T9 I/O88 L0 (io)
part B pins: A9 I/O186 HX2 (io), A10 I/O191 HX7 (io), A11 I/O164 EX4 (io), A12 I/O166 EX6 (io), A13 I/O177 GX1 (io), A14 I/O180 GX4 (io), A15 I/O181 GX5 (io), A16 I/O175 FX7 (io), B9 I/O187 HX3 (io), B10 I/O160 EX0 (io), B11 I/O165 EX5 (io), B12 I/O167 EX7 (io), B13 I/O179 GX3 (io), B14 I/O182 GX6 (io), B15 I/O174 FX6 (io), B16 I/O173 FX5 (io), C8 I/O184 HX0 (io), C9 I/O189 HX5 (io), C10 I/O163 EX3 (io), C11 I/O162 EX2 (io), C12 I/O178 GX2 (io), C13 I/O183 GX7 (io), C15 I/O172 FX4 (io), C16 I/O171 FX3 (io), D15 I/O151 CX7 (io), D16 I/O150 CX6 (io), E8 I/O188 HX4 (io), E10 I/O190 HX6 (io), E11 I/O169 FX1 (io), E12 I/O168 FX0 (io), E14 I/O170 FX2 (io), E16 I/O148 CX4 (io), F8 I/O185 HX1 (io), F9 I/O161 EX1 (io), F10 I/O176 GX0 (io), F11 I/O145 CX1 (io), F12 I/O146 CX2 (io), F14 I/O147 CX3 (io), F15 I/O149 CX5 (io), F16 I/O144 CX0 (io), G11 I/O159 DX7 (io), G12 I/O156 DX4 (io), G14 I/O157 DX5 (io), G15 I/O158 DX6 (io), G16 I/O155 DX3 (io), H11 I/O129 AX1 (io), H12 I/O128 AX0 (io), H14 I/O153 DX1 (io), H15 I/O154 DX2 (io), H16 I/O152 DX0 (io), J11 I/O133 AX5 (io), J12 I/O134 AX6 (io), J14 I/O132 AX4 (io), J15 I/O131 AX3 (io), J16 I/O130 AX2 (io), K11 I/O138 BX2 (io), K12 I/O139 BX3 (io), K14 I/O137 BX1 (io), K15 I/O136 BX0 (io), K16 I/O135 AX7 (io), L10 I/O98 M2 (io), L11 I/O142 BX6 (io), L12 I/O114 O2 (io), L14 I/O143 BX7 (io), L15 I/O141 BX5 (io), L16 I/O140 BX4 (io), M10 I/O100 M4 (io), M11 I/O121 P1 (io), M12 I/O123 P3 (io), M14 I/O115 O3 (io), M15 I/O113 O1 (io), M16 I/O112 O0 (io), N14 I/O119 O7 (io), N15 I/O117 O5 (io), N16 I/O116 O4 (io), P10 I/O101 M5 (io), P11 I/O122 P2 (io), P12 I/O124 P4 (io), P13 I/O111 N7 (io), P14 I/O110 N6 (io), P15 I/O109 N5 (io), P16 I/O118 O6 (io), R9 I/O96 M0 (io), R10 I/O99 M3 (io), R11 I/O102 M6 (io), R12 I/O120 P0 (io), R13 I/O127 P7 (io), R14 I/O104 N0 (io), R15 I/O107 N3 (io), R16 I/O108 N4 (io), T10 I/O97 M1 (io), T12 I/O103 M7 (io), T13 I/O125 P5 (io), T14 I/O126 P6 (io), T15 I/O105 N1 (io), T16 I/O106 N2 (io)
part C pins: A6 CLK0 (in), B1 NC, C2 TDI (in), C14 NC, D4 VCC (power), D5 GND (power), D6 VCC (power), D7 GND (power), D8 GND (power), D9 VCC (power), D10 GND (power), D11 VCC (power), D12 GND (power), D13 GND (power), D14 TDO (out), E4 GND (power), E5 NC, E9 CLK3 (in), E13 VCC (power), E15 NC, F4 VCC (power), F13 GND (power), G4 GND (power), G7 VCC (power), G8 GND (power), G9 GND (power), G10 VCC (power), G13 VCC (power), H4 VCC (power), H7 GND (power), H8 VCC (power), H9 VCC (power), H10 GND (power), H13 GND (power), J4 GND (power), J7 GND (power), J8 VCC (power), J9 VCC (power), J10 GND (power), J13 GND (power), K4 VCC (power), K7 VCC (power), K8 GND (power), K9 GND (power), K10 VCC (power), K13 VCC (power), L4 GND (power), L13 GND (power), M4 VCC (power), M13 GND (power), N3 TCK (in), N4 GND (power), N5 GND (power), N6 VCC (power), N7 GND (power), N8 GND (power), N9 VCC (power), N10 GND (power), N11 VCC (power), N12 GND (power), N13 VCC (power), P3 TMS (in), T8 CLK1 (in), T11 CLK2 (in)

## M4A3-384/192-12FAI
designator U?
High-Performance EE CMOS In-System Programmable Logic; Published: 17-Jul-2002; LatestRevisionDate: 13-Apr-2006; LatestRevisionNote: IPC-7351 Footprint Added.; DatasheetVersion: Feb-2001; PackageVersion: pkg_32, Aug-2005; PackageReference: fpBGA256; Publisher: Altium Limited; PackageDescription: 256-Ball Fine Pitch Ball Grid Array (fpBGA256); Code_IPC: BGA100P16X16-256; ComponentLink1Description: Manufacturer Link; ComponentLink1URL: http://www.latticesemi.com/products/mature/index.cfm; ComponentLink2Description: Datasheet; ComponentLink2URL: http://www.latticesemi.com/account/_download.cfm?AMID=1344
footprint fpBGA256 (BGA, 256-Leads, Body 17x17mm, Pitch 1mm)
3D model M4A3-fpBGA256 (256-Ball Fine Pitch Ball Grid Array (fpBGA256))
part A pins: A1 I/O12 B4 (io), A2 I/O10 B2 (io), A3 I/O31 D7 (io), A4 I/O29 D5 (io), A5 I/O25 D1 (io), A7 I/O3 A3 (io), A8 I/O1 A1 (io), B2 I/O13 B5 (io), B3 I/O11 B3 (io), B4 I/O8 B0 (io), B5 I/O26 D2 (io), B6 I/O7 A7 (io), B7 I/O5 A5 (io), B8 I/O0 A0 (io), C1 I/O23 C7 (io), C3 I/O14 B6 (io), C4 I/O15 B7 (io), C5 I/O30 D6 (io), C6 I/O28 D4 (io), C7 I/O6 A6 (io), D1 I/O21 C5 (io), D2 I/O22 C6 (io), D3 I/O9 B1 (io), E1 I/O47 F7 (io), E2 I/O19 C3 (io), E3 I/O20 C4 (io), E6 I/O24 D0 (io), E7 I/O2 A2 (io), F1 I/O45 F5 (io), F2 I/O46 F6 (io), F3 I/O16 C0 (io), F5 I/O18 C2 (io), F6 I/O27 D3 (io), F7 I/O4 A4 (io), G1 I/O39 E7 (io), G2 I/O41 F1 (io), G3 I/O42 F2 (io), G5 I/O44 F4 (io), G6 I/O17 C1 (io), H1 I/O34 E2 (io), H2 I/O35 E3 (io), H3 I/O36 E4 (io), H5 I/O40 F0 (io), H6 I/O43 F3 (io), J1 I/O58 H2 (io), J2 I/O56 H0 (io), J3 I/O57 H1 (io), J5 I/O37 E5 (io), J6 I/O38 E6 (io), K1 I/O48 G0 (io), K2 I/O62 H6 (io), K3 I/O63 H7 (io), K5 I/O32 E0 (io), K6 I/O33 E1 (io), L1 I/O49 G1 (io), L2 I/O52 G4 (io), L3 I/O51 G3 (io), L5 I/O59 H3 (io), L6 I/O60 H4 (io), L7 I/O69 I5 (io), L8 I/O67 I3 (io), L9 I/O91 L3 (io), M1 I/O50 G2 (io), M2 I/O55 G7 (io), M3 I/O76 J4 (io), M5 I/O61 H5 (io), M6 I/O83 K3 (io), M7 I/O80 K0 (io), M8 I/O66 I2 (io), M9 I/O90 L2 (io), N1 I/O53 G5 (io), N2 I/O72 J0 (io), P1 I/O54 G6 (io), P2 I/O73 J1 (io), P4 I/O87 K7 (io), P5 I/O84 K4 (io), P6 I/O71 I7 (io), P7 I/O94 L6 (io), P8 I/O93 L5 (io), P9 I/O89 L1 (io), R1 I/O74 J2 (io), R2 I/O75 J3 (io), R3 I/O79 J7 (io), R4 I/O85 K5 (io), R5 I/O81 K1 (io), R6 I/O68 I4 (io), R7 I/O64 I0 (io), R8 I/O92 L4 (io), T1 I/O77 J5 (io), T2 I/O78 J6 (io), T3 I/O86 K6 (io), T4 I/O82 K2 (io), T5 I/O70 I6 (io), T6 I/O65 I1 (io), T7 I/O95 L7 (io), T9 I/O88 L0 (io)
part B pins: A9 I/O186 HX2 (io), A10 I/O191 HX7 (io), A11 I/O164 EX4 (io), A12 I/O166 EX6 (io), A13 I/O177 GX1 (io), A14 I/O180 GX4 (io), A15 I/O181 GX5 (io), A16 I/O175 FX7 (io), B9 I/O187 HX3 (io), B10 I/O160 EX0 (io), B11 I/O165 EX5 (io), B12 I/O167 EX7 (io), B13 I/O179 GX3 (io), B14 I/O182 GX6 (io), B15 I/O174 FX6 (io), B16 I/O173 FX5 (io), C8 I/O184 HX0 (io), C9 I/O189 HX5 (io), C10 I/O163 EX3 (io), C11 I/O162 EX2 (io), C12 I/O178 GX2 (io), C13 I/O183 GX7 (io), C15 I/O172 FX4 (io), C16 I/O171 FX3 (io), D15 I/O151 CX7 (io), D16 I/O150 CX6 (io), E8 I/O188 HX4 (io), E10 I/O190 HX6 (io), E11 I/O169 FX1 (io), E12 I/O168 FX0 (io), E14 I/O170 FX2 (io), E16 I/O148 CX4 (io), F8 I/O185 HX1 (io), F9 I/O161 EX1 (io), F10 I/O176 GX0 (io), F11 I/O145 CX1 (io), F12 I/O146 CX2 (io), F14 I/O147 CX3 (io), F15 I/O149 CX5 (io), F16 I/O144 CX0 (io), G11 I/O159 DX7 (io), G12 I/O156 DX4 (io), G14 I/O157 DX5 (io), G15 I/O158 DX6 (io), G16 I/O155 DX3 (io), H11 I/O129 AX1 (io), H12 I/O128 AX0 (io), H14 I/O153 DX1 (io), H15 I/O154 DX2 (io), H16 I/O152 DX0 (io), J11 I/O133 AX5 (io), J12 I/O134 AX6 (io), J14 I/O132 AX4 (io), J15 I/O131 AX3 (io), J16 I/O130 AX2 (io), K11 I/O138 BX2 (io), K12 I/O139 BX3 (io), K14 I/O137 BX1 (io), K15 I/O136 BX0 (io), K16 I/O135 AX7 (io), L10 I/O98 M2 (io), L11 I/O142 BX6 (io), L12 I/O114 O2 (io), L14 I/O143 BX7 (io), L15 I/O141 BX5 (io), L16 I/O140 BX4 (io), M10 I/O100 M4 (io), M11 I/O121 P1 (io), M12 I/O123 P3 (io), M14 I/O115 O3 (io), M15 I/O113 O1 (io), M16 I/O112 O0 (io), N14 I/O119 O7 (io), N15 I/O117 O5 (io), N16 I/O116 O4 (io), P10 I/O101 M5 (io), P11 I/O122 P2 (io), P12 I/O124 P4 (io), P13 I/O111 N7 (io), P14 I/O110 N6 (io), P15 I/O109 N5 (io), P16 I/O118 O6 (io), R9 I/O96 M0 (io), R10 I/O99 M3 (io), R11 I/O102 M6 (io), R12 I/O120 P0 (io), R13 I/O127 P7 (io), R14 I/O104 N0 (io), R15 I/O107 N3 (io), R16 I/O108 N4 (io), T10 I/O97 M1 (io), T12 I/O103 M7 (io), T13 I/O125 P5 (io), T14 I/O126 P6 (io), T15 I/O105 N1 (io), T16 I/O106 N2 (io)
part C pins: A6 CLK0 (in), B1 NC, C2 TDI (in), C14 NC, D4 VCC (power), D5 GND (power), D6 VCC (power), D7 GND (power), D8 GND (power), D9 VCC (power), D10 GND (power), D11 VCC (power), D12 GND (power), D13 GND (power), D14 TDO (out), E4 GND (power), E5 NC, E9 CLK3 (in), E13 VCC (power), E15 NC, F4 VCC (power), F13 GND (power), G4 GND (power), G7 VCC (power), G8 GND (power), G9 GND (power), G10 VCC (power), G13 VCC (power), H4 VCC (power), H7 GND (power), H8 VCC (power), H9 VCC (power), H10 GND (power), H13 GND (power), J4 GND (power), J7 GND (power), J8 VCC (power), J9 VCC (power), J10 GND (power), J13 GND (power), K4 VCC (power), K7 VCC (power), K8 GND (power), K9 GND (power), K10 VCC (power), K13 VCC (power), L4 GND (power), L13 GND (power), M4 VCC (power), M13 GND (power), N3 TCK (in), N4 GND (power), N5 GND (power), N6 VCC (power), N7 GND (power), N8 GND (power), N9 VCC (power), N10 GND (power), N11 VCC (power), N12 GND (power), N13 VCC (power), P3 TMS (in), T8 CLK1 (in), T11 CLK2 (in)

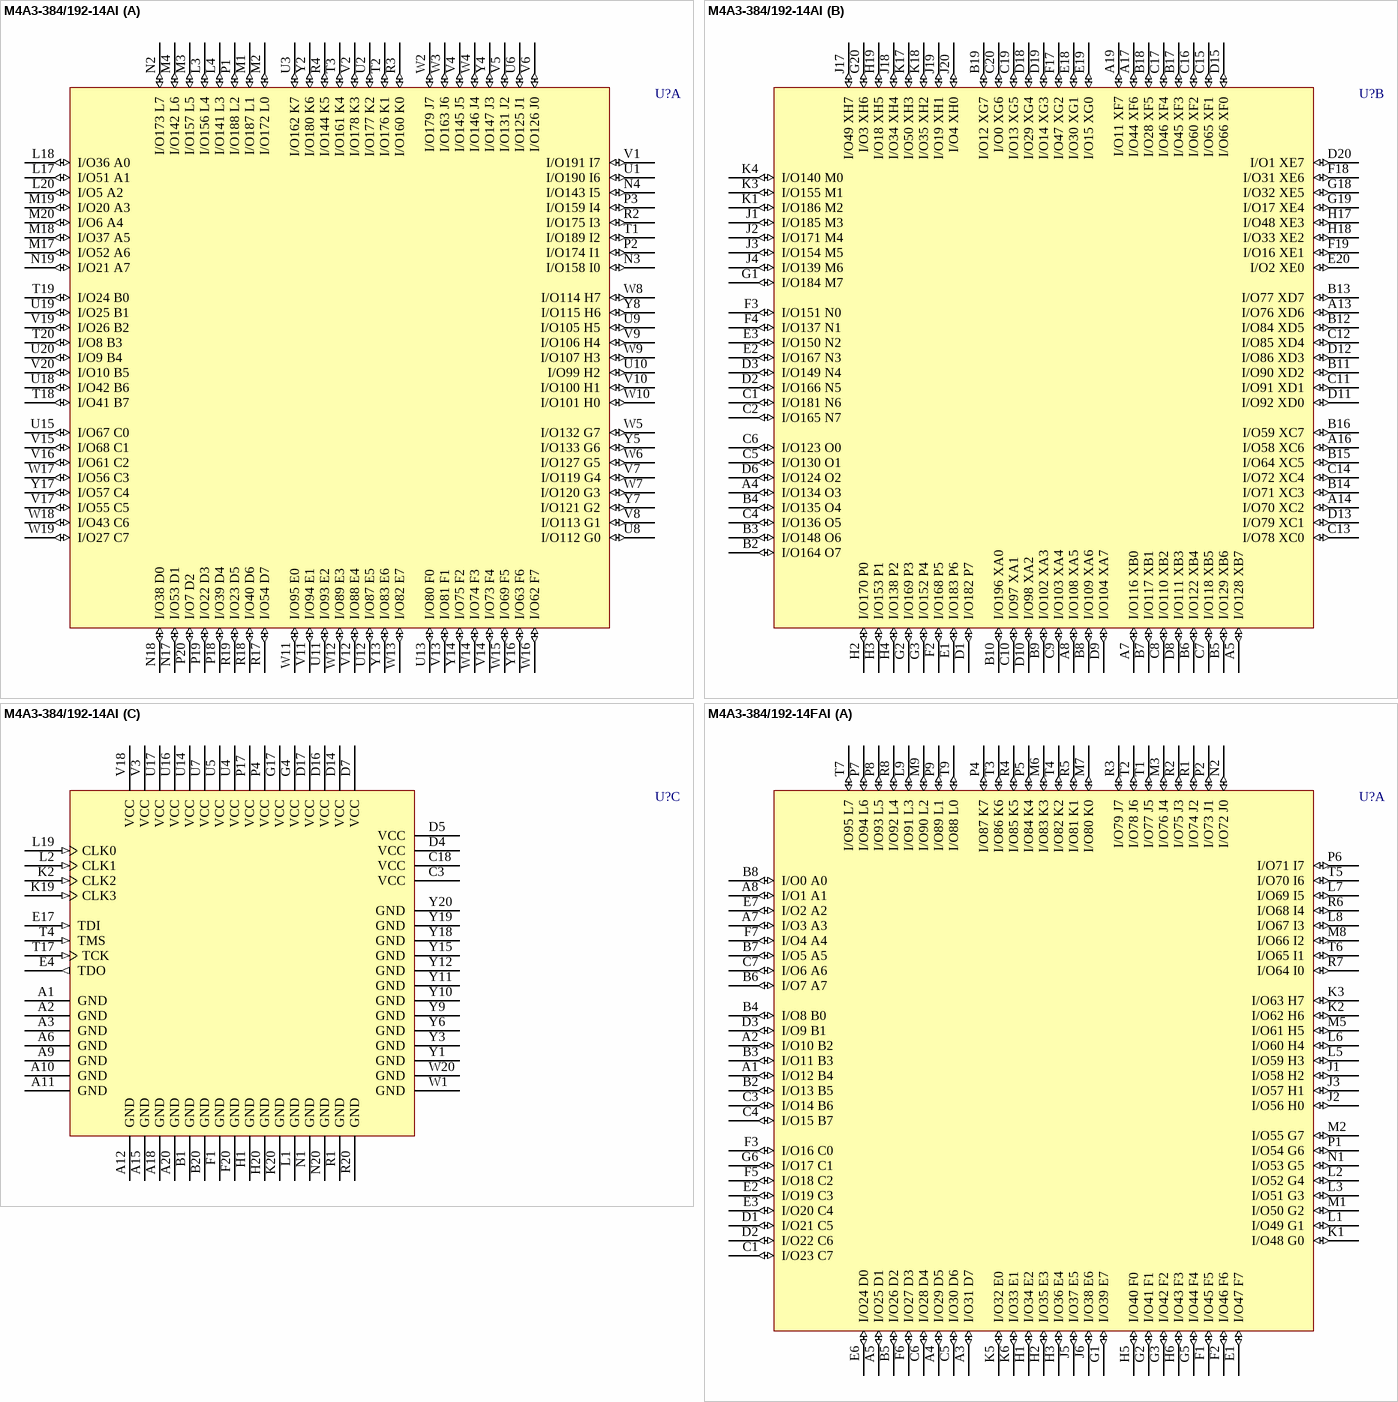
[diagram p85: symbols M4A3-384/192-14AI to M4A3-384/192-14FAI]

## M4A3-384/192-14AI
designator U?
High-Performance EE CMOS In-System Programmable Logic; Published: 17-Jul-2002; LatestRevisionDate: 13-Apr-2006; LatestRevisionNote: IPC-7351 Footprint Added.; DatasheetVersion: Feb-2001; PackageVersion: pkg_32, Aug-2005; PackageReference: SBGA256; Publisher: Altium Limited; PackageDescription: 256-Ball Super Ball Grid Array (SBGA256); ComponentLink1Description: Manufacturer Link; ComponentLink1URL: http://www.latticesemi.com/products/mature/index.cfm; ComponentLink2Description: Datasheet; ComponentLink2URL: http://www.latticesemi.com/account/_download.cfm?AMID=1344
footprint SBGA256 (BGA, 256-Leads, Body 27x27mm, Pitch 1.27mm)
3D model M4A3-SBGA256 (256-Ball Super Ball Grid Array (SBGA256))
part A pins: L3 I/O156 L4 (io), L4 I/O141 L3 (io), L17 I/O51 A1 (io), L18 I/O36 A0 (io), L20 I/O5 A2 (io), M1 I/O187 L1 (io), M2 I/O172 L0 (io), M3 I/O157 L5 (io), M4 I/O142 L6 (io), M17 I/O52 A6 (io), M18 I/O37 A5 (io), M19 I/O20 A3 (io), M20 I/O6 A4 (io), N2 I/O173 L7 (io), N3 I/O158 I0 (io), N4 I/O143 I5 (io), N17 I/O53 D1 (io), N18 I/O38 D0 (io), N19 I/O21 A7 (io), P1 I/O188 L2 (io), P2 I/O174 I1 (io), P3 I/O159 I4 (io), P18 I/O39 D4 (io), P19 I/O22 D3 (io), P20 I/O7 D2 (io), R2 I/O175 I3 (io), R3 I/O160 K0 (io), R4 I/O144 K5 (io), R17 I/O54 D7 (io), R18 I/O40 D6 (io), R19 I/O23 D5 (io), T1 I/O189 I2 (io), T2 I/O176 K1 (io), T3 I/O161 K4 (io), T18 I/O41 B7 (io), T19 I/O24 B0 (io), T20 I/O8 B3 (io), U1 I/O190 I6 (io), U2 I/O177 K2 (io), U3 I/O162 K7 (io), U6 I/O125 J1 (io), U8 I/O112 G0 (io), U9 I/O105 H5 (io), U10 I/O99 H2 (io), U11 I/O93 E2 (io), U12 I/O87 E5 (io), U13 I/O80 F0 (io), U15 I/O67 C0 (io), U18 I/O42 B6 (io), U19 I/O25 B1 (io), U20 I/O9 B4 (io), V1 I/O191 I7 (io), V2 I/O178 K3 (io), V4 I/O145 J5 (io), V5 I/O131 J2 (io), V6 I/O126 J0 (io), V7 I/O119 G4 (io), V8 I/O113 G1 (io), V9 I/O106 H4 (io), V10 I/O100 H1 (io), V11 I/O94 E1 (io), V12 I/O88 E4 (io), V13 I/O81 F1 (io), V14 I/O73 F4 (io), V15 I/O68 C1 (io), V16 I/O61 C2 (io), V17 I/O55 C5 (io), V19 I/O26 B2 (io), V20 I/O10 B5 (io), W2 I/O179 J7 (io), W3 I/O163 J6 (io), W4 I/O146 J4 (io), W5 I/O132 G7 (io), W6 I/O127 G5 (io), W7 I/O120 G3 (io), W8 I/O114 H7 (io), W9 I/O107 H3 (io), W10 I/O101 H0 (io), W11 I/O95 E0 (io), W12 I/O89 E3 (io), W13 I/O82 E7 (io), W14 I/O74 F3 (io), W15 I/O69 F5 (io), W16 I/O62 F7 (io), W17 I/O56 C3 (io), W18 I/O43 C6 (io), W19 I/O27 C7 (io), Y2 I/O180 K6 (io), Y4 I/O147 J3 (io), Y5 I/O133 G6 (io), Y7 I/O121 G2 (io), Y8 I/O115 H6 (io), Y13 I/O83 E6 (io), Y14 I/O75 F2 (io), Y16 I/O63 F6 (io), Y17 I/O57 C4 (io)
part B pins: A4 I/O134 O3 (io), A5 I/O128 XB7 (io), A7 I/O116 XB0 (io), A8 I/O108 XA5 (io), A13 I/O76 XD6 (io), A14 I/O70 XC2 (io), A16 I/O58 XC6 (io), A17 I/O44 XF6 (io), A19 I/O11 XF7 (io), B2 I/O164 O7 (io), B3 I/O148 O6 (io), B4 I/O135 O4 (io), B5 I/O129 XB6 (io), B6 I/O122 XB4 (io), B7 I/O117 XB1 (io), B8 I/O109 XA6 (io), B9 I/O102 XA3 (io), B10 I/O196 XA0 (io), B11 I/O90 XD2 (io), B12 I/O84 XD5 (io), B13 I/O77 XD7 (io), B14 I/O71 XC3 (io), B15 I/O64 XC5 (io), B16 I/O59 XC7 (io), B17 I/O45 XF3 (io), B18 I/O28 XF5 (io), B19 I/O12 XG7 (io), C1 I/O181 N6 (io), C2 I/O165 N7 (io), C4 I/O136 O5 (io), C5 I/O130 O1 (io), C6 I/O123 O0 (io), C7 I/O118 XB5 (io), C8 I/O110 XB2 (io), C9 I/O103 XA4 (io), C10 I/O97 XA1 (io), C11 I/O91 XD1 (io), C12 I/O85 XD4 (io), C13 I/O78 XC0 (io), C14 I/O72 XC4 (io), C15 I/O65 XF1 (io), C16 I/O60 XF2 (io), C17 I/O46 XF4 (io), C19 I/O13 XG5 (io), C20 I/O0 XG6 (io), D1 I/O182 P7 (io), D2 I/O166 N5 (io), D3 I/O149 N4 (io), D6 I/O124 O2 (io), D8 I/O111 XB3 (io), D9 I/O104 XA7 (io), D10 I/O98 XA2 (io), D11 I/O92 XD0 (io), D12 I/O86 XD3 (io), D13 I/O79 XC1 (io), D15 I/O66 XF0 (io), D18 I/O29 XG4 (io), D19 I/O14 XG3 (io), D20 I/O1 XE7 (io), E1 I/O183 P6 (io), E2 I/O167 N3 (io), E3 I/O150 N2 (io), E18 I/O30 XG1 (io), E19 I/O15 XG0 (io), E20 I/O2 XE0 (io), F2 I/O168 P5 (io), F3 I/O151 N0 (io), F4 I/O137 N1 (io), F17 I/O47 XG2 (io), F18 I/O31 XE6 (io), F19 I/O16 XE1 (io), G1 I/O184 M7 (io), G2 I/O169 P3 (io), G3 I/O152 P4 (io), G18 I/O32 XE5 (io), G19 I/O17 XE4 (io), G20 I/O3 XH6 (io), H2 I/O170 P0 (io), H3 I/O153 P1 (io), H4 I/O138 P2 (io), H17 I/O48 XE3 (io), H18 I/O33 XE2 (io), H19 I/O18 XH5 (io), J1 I/O185 M3 (io), J2 I/O171 M4 (io), J3 I/O154 M5 (io), J4 I/O139 M6 (io), J17 I/O49 XH7 (io), J18 I/O34 XH4 (io), J19 I/O19 XH1 (io), J20 I/O4 XH0 (io), K1 I/O186 M2 (io), K3 I/O155 M1 (io), K4 I/O140 M0 (io), K17 I/O50 XH3 (io), K18 I/O35 XH2 (io)
part C pins: A1 GND (power), A2 GND (power), A3 GND (power), A6 GND (power), A9 GND (power), A10 GND (power), A11 GND (power), A12 GND (power), A15 GND (power), A18 GND (power), A20 GND (power), B1 GND (power), B20 GND (power), C3 VCC (power), C18 VCC (power), D4 VCC (power), D5 VCC (power), D7 VCC (power), D14 VCC (power), D16 VCC (power), D17 VCC (power), E4 TDO (out), E17 TDI (in), F1 GND (power), F20 GND (power), G4 VCC (power), G17 VCC (power), H1 GND (power), H20 GND (power), K2 CLK2 (in), K19 CLK3 (in), K20 GND (power), L1 GND (power), L2 CLK1 (in), L19 CLK0 (in), N1 GND (power), N20 GND (power), P4 VCC (power), P17 VCC (power), R1 GND (power), R20 GND (power), T4 TMS (in), T17 TCK (in), U4 VCC (power), U5 VCC (power), U7 VCC (power), U14 VCC (power), U16 VCC (power), U17 VCC (power), V3 VCC (power), V18 VCC (power), W1 GND (power), W20 GND (power), Y1 GND (power), Y3 GND (power), Y6 GND (power), Y9 GND (power), Y10 GND (power), Y11 GND (power), Y12 GND (power), Y15 GND (power), Y18 GND (power), Y19 GND (power), Y20 GND (power)

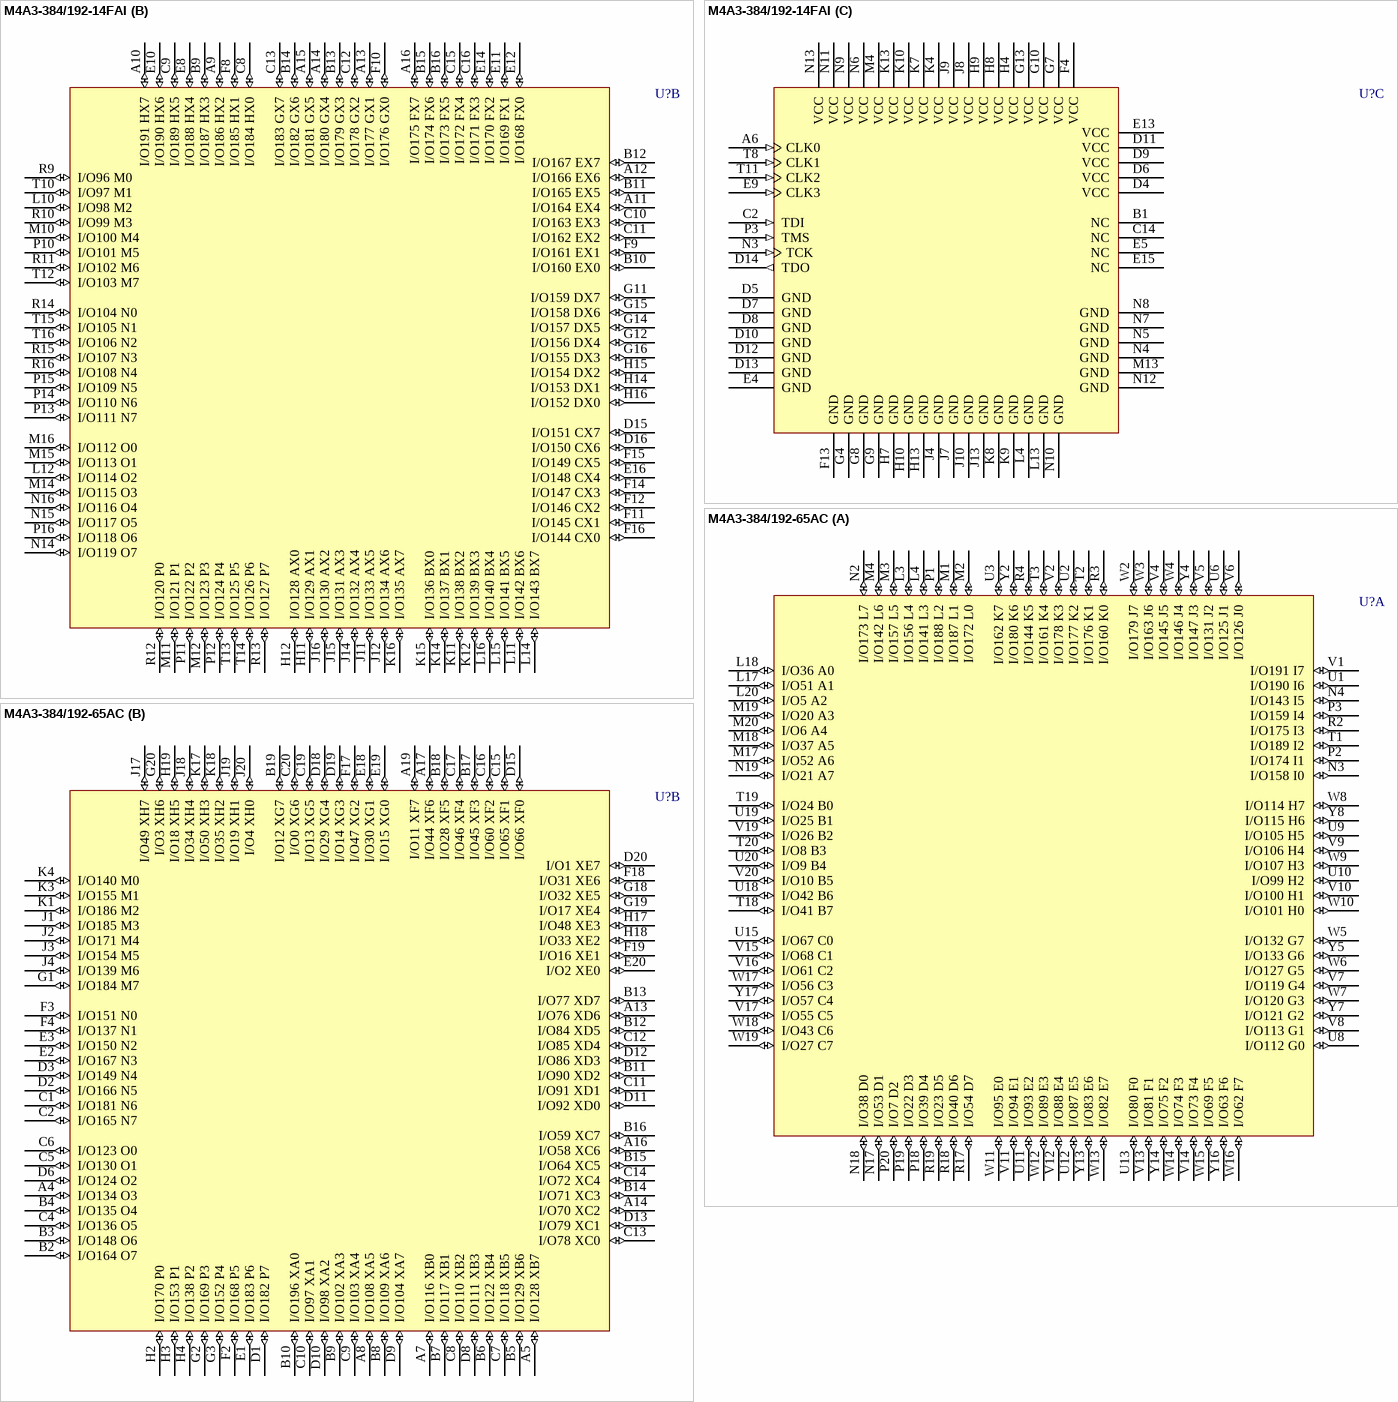
[diagram p86: symbols M4A3-384/192-14FAI to M4A3-384/192-65AC]

## M4A3-384/192-14FAI
designator U?
High-Performance EE CMOS In-System Programmable Logic; Published: 17-Jul-2002; LatestRevisionDate: 13-Apr-2006; LatestRevisionNote: IPC-7351 Footprint Added.; DatasheetVersion: Feb-2001; PackageVersion: pkg_32, Aug-2005; PackageReference: fpBGA256; Publisher: Altium Limited; PackageDescription: 256-Ball Fine Pitch Ball Grid Array (fpBGA256); Code_IPC: BGA100P16X16-256; ComponentLink1Description: Manufacturer Link; ComponentLink1URL: http://www.latticesemi.com/products/mature/index.cfm; ComponentLink2Description: Datasheet; ComponentLink2URL: http://www.latticesemi.com/account/_download.cfm?AMID=1344
footprint fpBGA256 (BGA, 256-Leads, Body 17x17mm, Pitch 1mm)
3D model M4A3-fpBGA256 (256-Ball Fine Pitch Ball Grid Array (fpBGA256))
part A pins: A1 I/O12 B4 (io), A2 I/O10 B2 (io), A3 I/O31 D7 (io), A4 I/O29 D5 (io), A5 I/O25 D1 (io), A7 I/O3 A3 (io), A8 I/O1 A1 (io), B2 I/O13 B5 (io), B3 I/O11 B3 (io), B4 I/O8 B0 (io), B5 I/O26 D2 (io), B6 I/O7 A7 (io), B7 I/O5 A5 (io), B8 I/O0 A0 (io), C1 I/O23 C7 (io), C3 I/O14 B6 (io), C4 I/O15 B7 (io), C5 I/O30 D6 (io), C6 I/O28 D4 (io), C7 I/O6 A6 (io), D1 I/O21 C5 (io), D2 I/O22 C6 (io), D3 I/O9 B1 (io), E1 I/O47 F7 (io), E2 I/O19 C3 (io), E3 I/O20 C4 (io), E6 I/O24 D0 (io), E7 I/O2 A2 (io), F1 I/O45 F5 (io), F2 I/O46 F6 (io), F3 I/O16 C0 (io), F5 I/O18 C2 (io), F6 I/O27 D3 (io), F7 I/O4 A4 (io), G1 I/O39 E7 (io), G2 I/O41 F1 (io), G3 I/O42 F2 (io), G5 I/O44 F4 (io), G6 I/O17 C1 (io), H1 I/O34 E2 (io), H2 I/O35 E3 (io), H3 I/O36 E4 (io), H5 I/O40 F0 (io), H6 I/O43 F3 (io), J1 I/O58 H2 (io), J2 I/O56 H0 (io), J3 I/O57 H1 (io), J5 I/O37 E5 (io), J6 I/O38 E6 (io), K1 I/O48 G0 (io), K2 I/O62 H6 (io), K3 I/O63 H7 (io), K5 I/O32 E0 (io), K6 I/O33 E1 (io), L1 I/O49 G1 (io), L2 I/O52 G4 (io), L3 I/O51 G3 (io), L5 I/O59 H3 (io), L6 I/O60 H4 (io), L7 I/O69 I5 (io), L8 I/O67 I3 (io), L9 I/O91 L3 (io), M1 I/O50 G2 (io), M2 I/O55 G7 (io), M3 I/O76 J4 (io), M5 I/O61 H5 (io), M6 I/O83 K3 (io), M7 I/O80 K0 (io), M8 I/O66 I2 (io), M9 I/O90 L2 (io), N1 I/O53 G5 (io), N2 I/O72 J0 (io), P1 I/O54 G6 (io), P2 I/O73 J1 (io), P4 I/O87 K7 (io), P5 I/O84 K4 (io), P6 I/O71 I7 (io), P7 I/O94 L6 (io), P8 I/O93 L5 (io), P9 I/O89 L1 (io), R1 I/O74 J2 (io), R2 I/O75 J3 (io), R3 I/O79 J7 (io), R4 I/O85 K5 (io), R5 I/O81 K1 (io), R6 I/O68 I4 (io), R7 I/O64 I0 (io), R8 I/O92 L4 (io), T1 I/O77 J5 (io), T2 I/O78 J6 (io), T3 I/O86 K6 (io), T4 I/O82 K2 (io), T5 I/O70 I6 (io), T6 I/O65 I1 (io), T7 I/O95 L7 (io), T9 I/O88 L0 (io)
part B pins: A9 I/O186 HX2 (io), A10 I/O191 HX7 (io), A11 I/O164 EX4 (io), A12 I/O166 EX6 (io), A13 I/O177 GX1 (io), A14 I/O180 GX4 (io), A15 I/O181 GX5 (io), A16 I/O175 FX7 (io), B9 I/O187 HX3 (io), B10 I/O160 EX0 (io), B11 I/O165 EX5 (io), B12 I/O167 EX7 (io), B13 I/O179 GX3 (io), B14 I/O182 GX6 (io), B15 I/O174 FX6 (io), B16 I/O173 FX5 (io), C8 I/O184 HX0 (io), C9 I/O189 HX5 (io), C10 I/O163 EX3 (io), C11 I/O162 EX2 (io), C12 I/O178 GX2 (io), C13 I/O183 GX7 (io), C15 I/O172 FX4 (io), C16 I/O171 FX3 (io), D15 I/O151 CX7 (io), D16 I/O150 CX6 (io), E8 I/O188 HX4 (io), E10 I/O190 HX6 (io), E11 I/O169 FX1 (io), E12 I/O168 FX0 (io), E14 I/O170 FX2 (io), E16 I/O148 CX4 (io), F8 I/O185 HX1 (io), F9 I/O161 EX1 (io), F10 I/O176 GX0 (io), F11 I/O145 CX1 (io), F12 I/O146 CX2 (io), F14 I/O147 CX3 (io), F15 I/O149 CX5 (io), F16 I/O144 CX0 (io), G11 I/O159 DX7 (io), G12 I/O156 DX4 (io), G14 I/O157 DX5 (io), G15 I/O158 DX6 (io), G16 I/O155 DX3 (io), H11 I/O129 AX1 (io), H12 I/O128 AX0 (io), H14 I/O153 DX1 (io), H15 I/O154 DX2 (io), H16 I/O152 DX0 (io), J11 I/O133 AX5 (io), J12 I/O134 AX6 (io), J14 I/O132 AX4 (io), J15 I/O131 AX3 (io), J16 I/O130 AX2 (io), K11 I/O138 BX2 (io), K12 I/O139 BX3 (io), K14 I/O137 BX1 (io), K15 I/O136 BX0 (io), K16 I/O135 AX7 (io), L10 I/O98 M2 (io), L11 I/O142 BX6 (io), L12 I/O114 O2 (io), L14 I/O143 BX7 (io), L15 I/O141 BX5 (io), L16 I/O140 BX4 (io), M10 I/O100 M4 (io), M11 I/O121 P1 (io), M12 I/O123 P3 (io), M14 I/O115 O3 (io), M15 I/O113 O1 (io), M16 I/O112 O0 (io), N14 I/O119 O7 (io), N15 I/O117 O5 (io), N16 I/O116 O4 (io), P10 I/O101 M5 (io), P11 I/O122 P2 (io), P12 I/O124 P4 (io), P13 I/O111 N7 (io), P14 I/O110 N6 (io), P15 I/O109 N5 (io), P16 I/O118 O6 (io), R9 I/O96 M0 (io), R10 I/O99 M3 (io), R11 I/O102 M6 (io), R12 I/O120 P0 (io), R13 I/O127 P7 (io), R14 I/O104 N0 (io), R15 I/O107 N3 (io), R16 I/O108 N4 (io), T10 I/O97 M1 (io), T12 I/O103 M7 (io), T13 I/O125 P5 (io), T14 I/O126 P6 (io), T15 I/O105 N1 (io), T16 I/O106 N2 (io)
part C pins: A6 CLK0 (in), B1 NC, C2 TDI (in), C14 NC, D4 VCC (power), D5 GND (power), D6 VCC (power), D7 GND (power), D8 GND (power), D9 VCC (power), D10 GND (power), D11 VCC (power), D12 GND (power), D13 GND (power), D14 TDO (out), E4 GND (power), E5 NC, E9 CLK3 (in), E13 VCC (power), E15 NC, F4 VCC (power), F13 GND (power), G4 GND (power), G7 VCC (power), G8 GND (power), G9 GND (power), G10 VCC (power), G13 VCC (power), H4 VCC (power), H7 GND (power), H8 VCC (power), H9 VCC (power), H10 GND (power), H13 GND (power), J4 GND (power), J7 GND (power), J8 VCC (power), J9 VCC (power), J10 GND (power), J13 GND (power), K4 VCC (power), K7 VCC (power), K8 GND (power), K9 GND (power), K10 VCC (power), K13 VCC (power), L4 GND (power), L13 GND (power), M4 VCC (power), M13 GND (power), N3 TCK (in), N4 GND (power), N5 GND (power), N6 VCC (power), N7 GND (power), N8 GND (power), N9 VCC (power), N10 GND (power), N11 VCC (power), N12 GND (power), N13 VCC (power), P3 TMS (in), T8 CLK1 (in), T11 CLK2 (in)

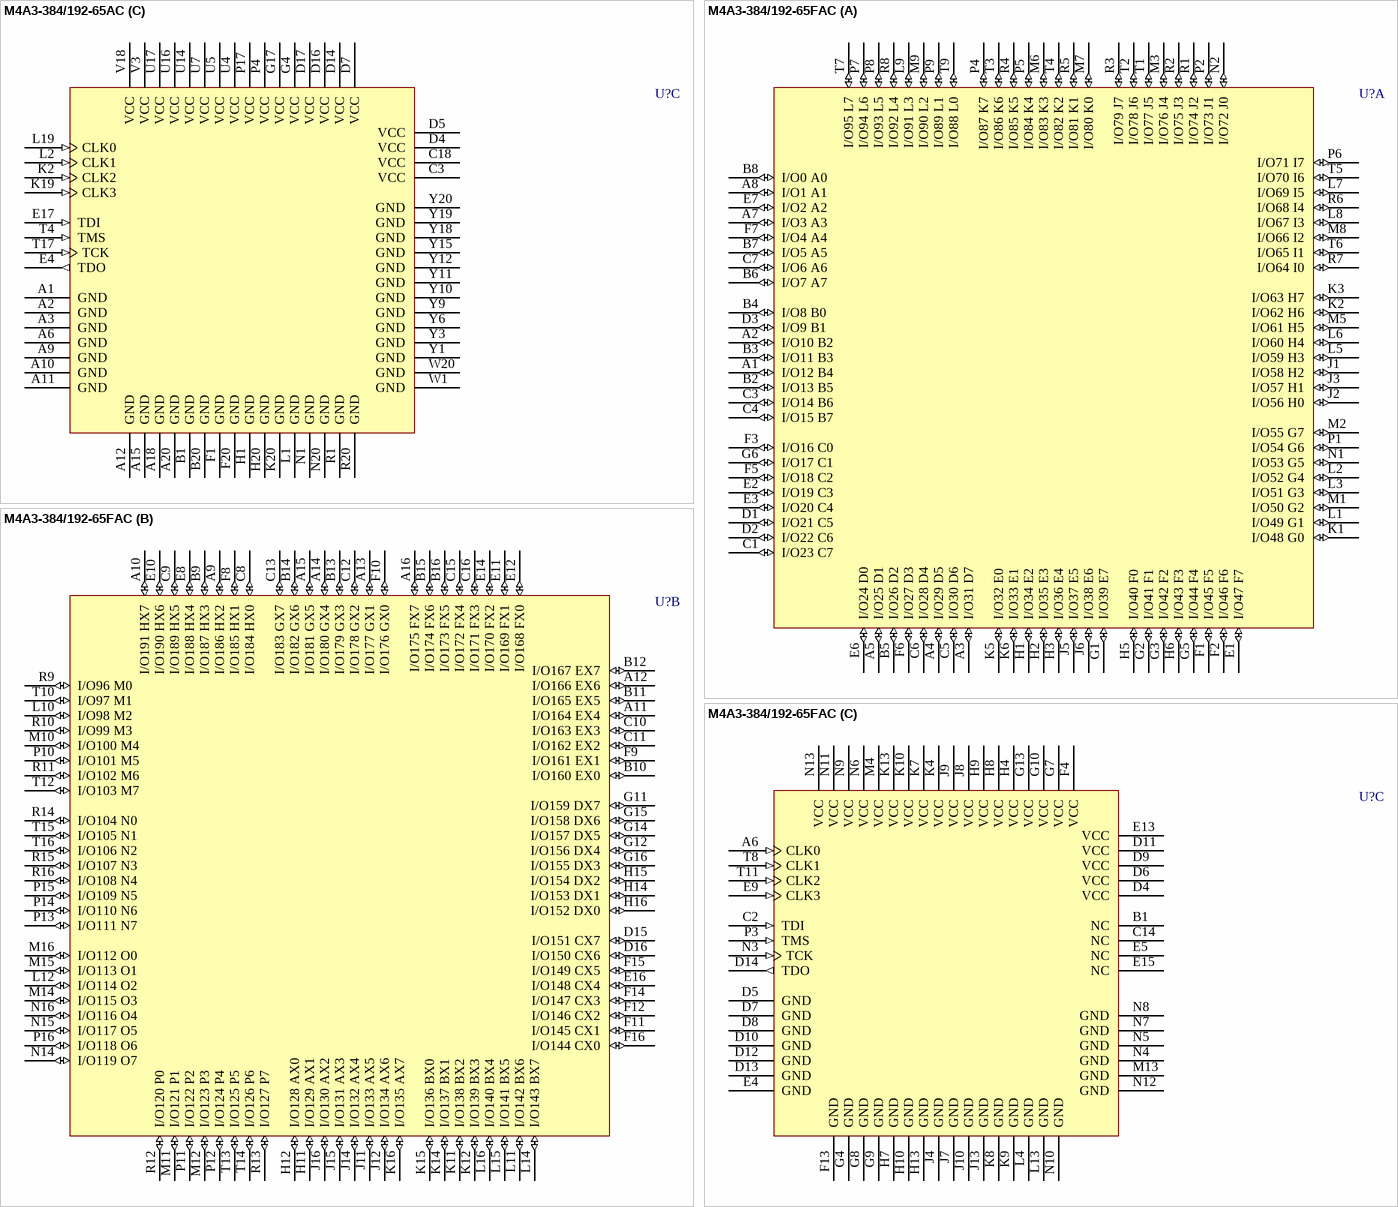
[diagram p87: symbols M4A3-384/192-65AC to M4A3-384/192-65FAC]

## M4A3-384/192-65AC
designator U?
High-Performance EE CMOS In-System Programmable Logic; Published: 17-Jul-2002; LatestRevisionDate: 13-Apr-2006; LatestRevisionNote: IPC-7351 Footprint Added.; DatasheetVersion: Feb-2001; PackageVersion: pkg_32, Aug-2005; PackageReference: SBGA256; Publisher: Altium Limited; PackageDescription: 256-Ball Super Ball Grid Array (SBGA256); ComponentLink1Description: Manufacturer Link; ComponentLink1URL: http://www.latticesemi.com/products/mature/index.cfm; ComponentLink2Description: Datasheet; ComponentLink2URL: http://www.latticesemi.com/account/_download.cfm?AMID=1344
footprint SBGA256 (BGA, 256-Leads, Body 27x27mm, Pitch 1.27mm)
3D model M4A3-SBGA256 (256-Ball Super Ball Grid Array (SBGA256))
part A pins: L3 I/O156 L4 (io), L4 I/O141 L3 (io), L17 I/O51 A1 (io), L18 I/O36 A0 (io), L20 I/O5 A2 (io), M1 I/O187 L1 (io), M2 I/O172 L0 (io), M3 I/O157 L5 (io), M4 I/O142 L6 (io), M17 I/O52 A6 (io), M18 I/O37 A5 (io), M19 I/O20 A3 (io), M20 I/O6 A4 (io), N2 I/O173 L7 (io), N3 I/O158 I0 (io), N4 I/O143 I5 (io), N17 I/O53 D1 (io), N18 I/O38 D0 (io), N19 I/O21 A7 (io), P1 I/O188 L2 (io), P2 I/O174 I1 (io), P3 I/O159 I4 (io), P18 I/O39 D4 (io), P19 I/O22 D3 (io), P20 I/O7 D2 (io), R2 I/O175 I3 (io), R3 I/O160 K0 (io), R4 I/O144 K5 (io), R17 I/O54 D7 (io), R18 I/O40 D6 (io), R19 I/O23 D5 (io), T1 I/O189 I2 (io), T2 I/O176 K1 (io), T3 I/O161 K4 (io), T18 I/O41 B7 (io), T19 I/O24 B0 (io), T20 I/O8 B3 (io), U1 I/O190 I6 (io), U2 I/O177 K2 (io), U3 I/O162 K7 (io), U6 I/O125 J1 (io), U8 I/O112 G0 (io), U9 I/O105 H5 (io), U10 I/O99 H2 (io), U11 I/O93 E2 (io), U12 I/O87 E5 (io), U13 I/O80 F0 (io), U15 I/O67 C0 (io), U18 I/O42 B6 (io), U19 I/O25 B1 (io), U20 I/O9 B4 (io), V1 I/O191 I7 (io), V2 I/O178 K3 (io), V4 I/O145 J5 (io), V5 I/O131 J2 (io), V6 I/O126 J0 (io), V7 I/O119 G4 (io), V8 I/O113 G1 (io), V9 I/O106 H4 (io), V10 I/O100 H1 (io), V11 I/O94 E1 (io), V12 I/O88 E4 (io), V13 I/O81 F1 (io), V14 I/O73 F4 (io), V15 I/O68 C1 (io), V16 I/O61 C2 (io), V17 I/O55 C5 (io), V19 I/O26 B2 (io), V20 I/O10 B5 (io), W2 I/O179 J7 (io), W3 I/O163 J6 (io), W4 I/O146 J4 (io), W5 I/O132 G7 (io), W6 I/O127 G5 (io), W7 I/O120 G3 (io), W8 I/O114 H7 (io), W9 I/O107 H3 (io), W10 I/O101 H0 (io), W11 I/O95 E0 (io), W12 I/O89 E3 (io), W13 I/O82 E7 (io), W14 I/O74 F3 (io), W15 I/O69 F5 (io), W16 I/O62 F7 (io), W17 I/O56 C3 (io), W18 I/O43 C6 (io), W19 I/O27 C7 (io), Y2 I/O180 K6 (io), Y4 I/O147 J3 (io), Y5 I/O133 G6 (io), Y7 I/O121 G2 (io), Y8 I/O115 H6 (io), Y13 I/O83 E6 (io), Y14 I/O75 F2 (io), Y16 I/O63 F6 (io), Y17 I/O57 C4 (io)
part B pins: A4 I/O134 O3 (io), A5 I/O128 XB7 (io), A7 I/O116 XB0 (io), A8 I/O108 XA5 (io), A13 I/O76 XD6 (io), A14 I/O70 XC2 (io), A16 I/O58 XC6 (io), A17 I/O44 XF6 (io), A19 I/O11 XF7 (io), B2 I/O164 O7 (io), B3 I/O148 O6 (io), B4 I/O135 O4 (io), B5 I/O129 XB6 (io), B6 I/O122 XB4 (io), B7 I/O117 XB1 (io), B8 I/O109 XA6 (io), B9 I/O102 XA3 (io), B10 I/O196 XA0 (io), B11 I/O90 XD2 (io), B12 I/O84 XD5 (io), B13 I/O77 XD7 (io), B14 I/O71 XC3 (io), B15 I/O64 XC5 (io), B16 I/O59 XC7 (io), B17 I/O45 XF3 (io), B18 I/O28 XF5 (io), B19 I/O12 XG7 (io), C1 I/O181 N6 (io), C2 I/O165 N7 (io), C4 I/O136 O5 (io), C5 I/O130 O1 (io), C6 I/O123 O0 (io), C7 I/O118 XB5 (io), C8 I/O110 XB2 (io), C9 I/O103 XA4 (io), C10 I/O97 XA1 (io), C11 I/O91 XD1 (io), C12 I/O85 XD4 (io), C13 I/O78 XC0 (io), C14 I/O72 XC4 (io), C15 I/O65 XF1 (io), C16 I/O60 XF2 (io), C17 I/O46 XF4 (io), C19 I/O13 XG5 (io), C20 I/O0 XG6 (io), D1 I/O182 P7 (io), D2 I/O166 N5 (io), D3 I/O149 N4 (io), D6 I/O124 O2 (io), D8 I/O111 XB3 (io), D9 I/O104 XA7 (io), D10 I/O98 XA2 (io), D11 I/O92 XD0 (io), D12 I/O86 XD3 (io), D13 I/O79 XC1 (io), D15 I/O66 XF0 (io), D18 I/O29 XG4 (io), D19 I/O14 XG3 (io), D20 I/O1 XE7 (io), E1 I/O183 P6 (io), E2 I/O167 N3 (io), E3 I/O150 N2 (io), E18 I/O30 XG1 (io), E19 I/O15 XG0 (io), E20 I/O2 XE0 (io), F2 I/O168 P5 (io), F3 I/O151 N0 (io), F4 I/O137 N1 (io), F17 I/O47 XG2 (io), F18 I/O31 XE6 (io), F19 I/O16 XE1 (io), G1 I/O184 M7 (io), G2 I/O169 P3 (io), G3 I/O152 P4 (io), G18 I/O32 XE5 (io), G19 I/O17 XE4 (io), G20 I/O3 XH6 (io), H2 I/O170 P0 (io), H3 I/O153 P1 (io), H4 I/O138 P2 (io), H17 I/O48 XE3 (io), H18 I/O33 XE2 (io), H19 I/O18 XH5 (io), J1 I/O185 M3 (io), J2 I/O171 M4 (io), J3 I/O154 M5 (io), J4 I/O139 M6 (io), J17 I/O49 XH7 (io), J18 I/O34 XH4 (io), J19 I/O19 XH1 (io), J20 I/O4 XH0 (io), K1 I/O186 M2 (io), K3 I/O155 M1 (io), K4 I/O140 M0 (io), K17 I/O50 XH3 (io), K18 I/O35 XH2 (io)
part C pins: A1 GND (power), A2 GND (power), A3 GND (power), A6 GND (power), A9 GND (power), A10 GND (power), A11 GND (power), A12 GND (power), A15 GND (power), A18 GND (power), A20 GND (power), B1 GND (power), B20 GND (power), C3 VCC (power), C18 VCC (power), D4 VCC (power), D5 VCC (power), D7 VCC (power), D14 VCC (power), D16 VCC (power), D17 VCC (power), E4 TDO (out), E17 TDI (in), F1 GND (power), F20 GND (power), G4 VCC (power), G17 VCC (power), H1 GND (power), H20 GND (power), K2 CLK2 (in), K19 CLK3 (in), K20 GND (power), L1 GND (power), L2 CLK1 (in), L19 CLK0 (in), N1 GND (power), N20 GND (power), P4 VCC (power), P17 VCC (power), R1 GND (power), R20 GND (power), T4 TMS (in), T17 TCK (in), U4 VCC (power), U5 VCC (power), U7 VCC (power), U14 VCC (power), U16 VCC (power), U17 VCC (power), V3 VCC (power), V18 VCC (power), W1 GND (power), W20 GND (power), Y1 GND (power), Y3 GND (power), Y6 GND (power), Y9 GND (power), Y10 GND (power), Y11 GND (power), Y12 GND (power), Y15 GND (power), Y18 GND (power), Y19 GND (power), Y20 GND (power)